# Altium schematic symbol library 6.Chips.SchLib: 209 symbols (part 1 of 3)
Pins are listed as number, name and electrical type; pins without a type are passive.

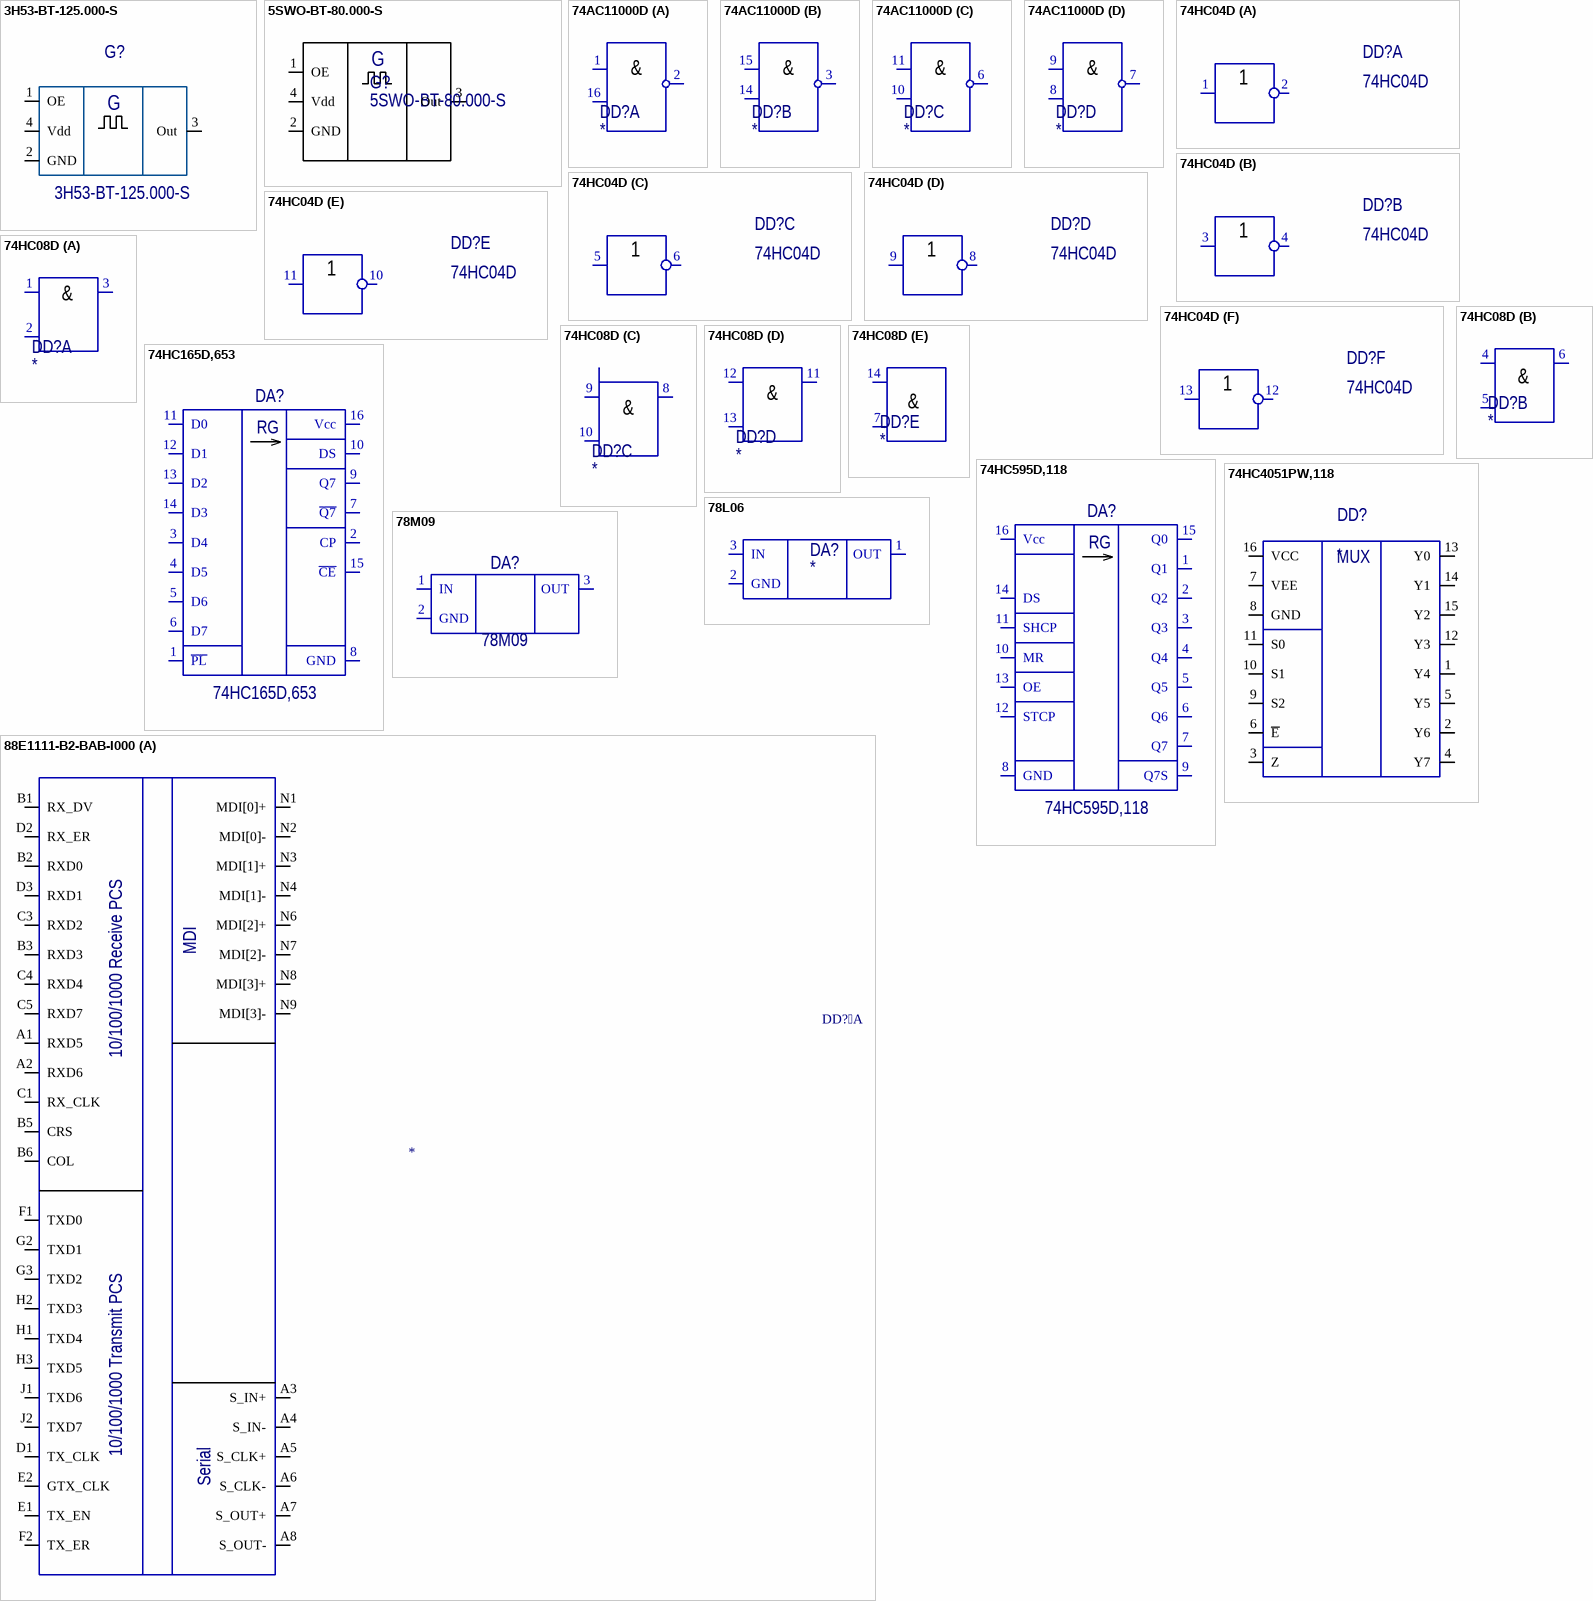
[diagram p0: symbols 3H53-BT-125.000-S to 88E1111-B2-BAB-I000]

## 3H53-BT-125.000-S
designator G?
footprint 3H53-5032 (Footprint not found)
pins: 1 OE, 2 GND, 3 Out, 4 Vdd
text: G

## 5SWO-BT-80.000-S
designator G?
footprint CFPS-73
pins: 1 OE, 2 GND, 3 Out, 4 Vdd
text: G

## 74AC11000D
designator DD?
footprint DIP16
part A pins: 1, 2 3, 16 2
part B pins: 3, 14 2, 15 1
part C pins: 6 3, 10 2, 11 1
part D pins: 7 3, 8 2, 9 1
part A text: &
part B text: &
part C text: &
part D text: &

## 74HC04D
designator DD?
footprint SO14 (SOIC, 14-Leads, Body 8,65x3,90mm, Pitch 1,27mm, IPC Medium Density)
part A pins: 1 1A, 2 1Y, 7 GNG hidden to GND, 14 Vcc hidden to Vcc
part B pins: 3 2A, 4 2Y
part C pins: 5 3A, 6 3Y
part D pins: 8 4Y, 9 4A
part E pins: 10 5Y, 11 5A
part F pins: 12 6Y, 13 6A

## 74HC08D
designator DD?
footprint so-14 (SOIC, 14-Leads, Body 8,65x3,90mm, Pitch 1,27mm, IPC Medium Density)
part A pins: 1 A, 2 B, 3 Y
part B pins: 4 A, 5 B, 6 Y
part C pins: 8 Y, 9 A, 10 B
part D pins: 11 Y, 12 A, 13 B
part E pins: 7 GND, 14 Vcc
part A text: &
part B text: &
part C text: &
part D text: &
part E text: &

## 74HC165D,653
designator DA?
8-битный сдвиговый регистр с параллельным входом, последовательным выходом [SO-16]; ComponentLink1Description: ds; ComponentLink1URL: https://www.ti.com/lit/ds/symlink/tps62110.pdf?ts=1597961771362&ref_url=https%253A%252F%252Fwww.rlocman.ru%252Fdatasheet%252Fdata.html%253Fdi%253D219501%2526%252FTPS62110RSAT
footprint SO-16 (SOIC, 16-Leads, Body 9,90x3,90mm, Pitch 1,27mm, IPC Medium Density)
pins: 1 ~{PL}, 2 CP, 3 D4, 4 D5, 5 D6, 6 D7, 7 ~{Q7}, 8 GND, 9 Q7, 10 DS, 11 D0, 12 D1, 13 D2, 14 D3, 15 ~{CE}, 16 Vcc
text: RG

## 74HC595D,118
designator DA?
8-и битный сдвиговый регистр с выходным регистром-защелки и тремя состояниями, [SO-16]; ComponentLink1Description: ds; ComponentLink1URL: https://www.ti.com/lit/ds/symlink/tps62110.pdf?ts=1597961771362&ref_url=https%253A%252F%252Fwww.rlocman.ru%252Fdatasheet%252Fdata.html%253Fdi%253D219501%2526%252FTPS62110RSAT
footprint SO-16 (SOIC, 16-Leads, Body 9,90x3,90mm, Pitch 1,27mm, IPC Medium Density)
pins: 1 Q1, 2 Q2, 3 Q3, 4 Q4, 5 Q5, 6 Q6, 7 Q7, 8 GND, 9 Q7S, 10 MR, 11 SHCP, 12 STCP, 13 OE, 14 DS, 15 Q0, 16 Vcc
text: RG

## 74HC4051PW,118
designator DD?
Восьми канальный аналоговый мультиплексор/ демультиплексор
footprint TSSOP-16 (TSOP, 16-Leads, Body 5,00x4,40mm, Pitch 0,65mm, IPC Medium Density)
pins: 1 Y4, 2 Y6, 3 Z, 4 Y7, 5 Y5, 6 ~{E}, 7 VEE, 8 GND, 9 S2, 10 S1, 11 S0, 12 Y3, 13 Y0, 14 Y1, 15 Y2, 16 VCC
text: MUX

## 78L06
designator DA?
footprint КТ-26 (Аналог TO-92 // Масса не более 1г //  LIV)
pins: 1 OUT, 2 GND, 3 IN

## 78M09
designator DA?
Стабилизатор напряжения +9В 1А [DPAK]; HelpURL: https://static.chipdip.ru/lib/142/DOC000142693.pdf
footprint to-252 (D-PAK, 3-Pads, Body 6,15x6,65mm (max), IPC Medium Density)
pins: 1 IN, 2 GND, 3 OUT

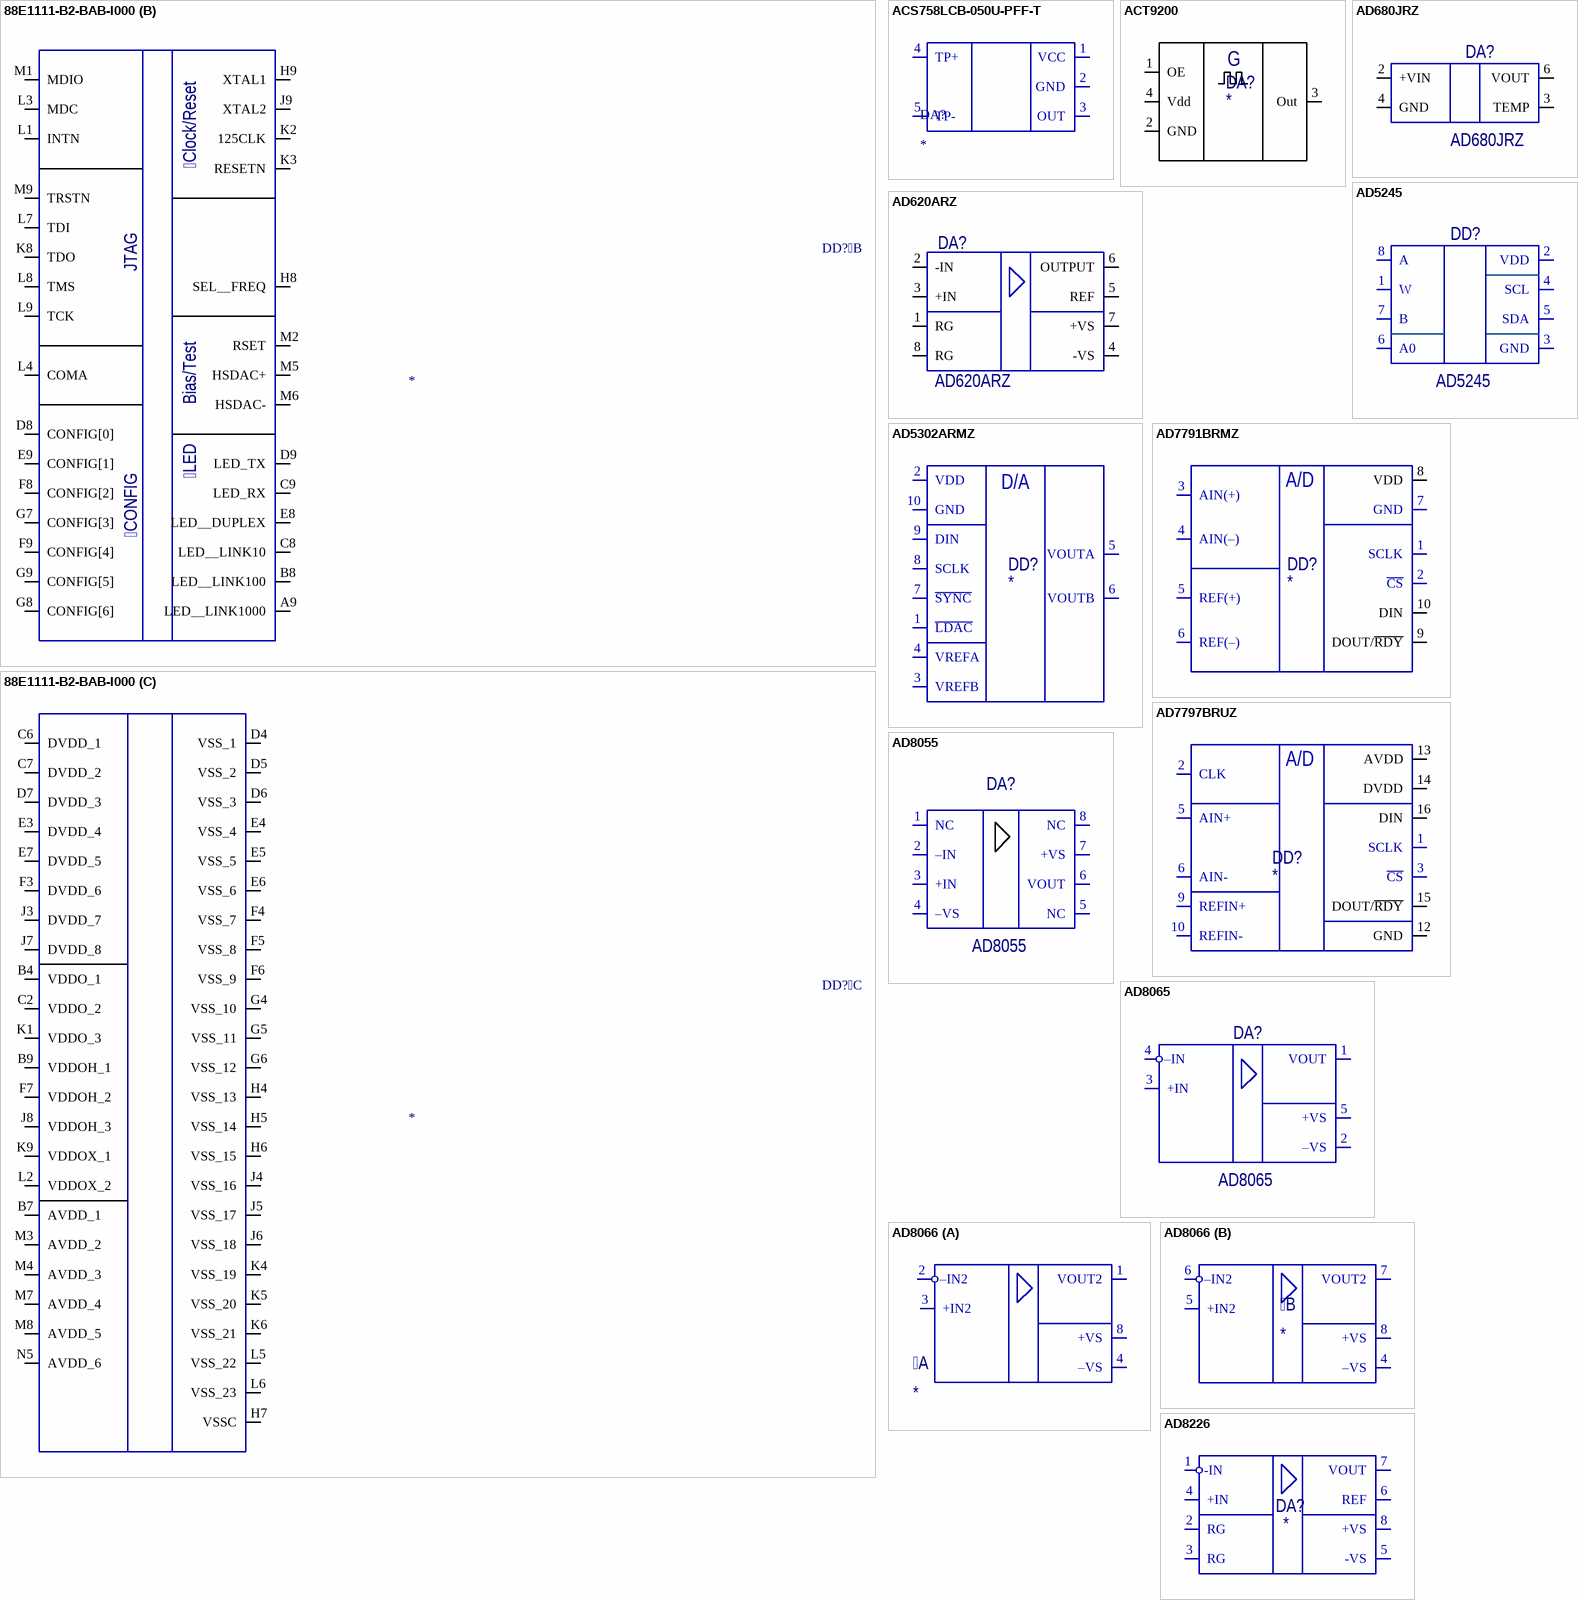
[diagram p1: symbols 88E1111-B2-BAB-I000 to AD8226]

## 88E1111-B2-BAB-I000
designator DD?
PHY 1-CH 10Mbps/100Mbps/1Gbps 1V/2.5V 128-Pin PQFP; Manufacturer_Name: Marvell; Manufacturer_Part_Number: 88E1111-B2-BAB-I000; Height: 1.54mm
footprint TFBGA-117
part A pins: A1 RXD5, A2 RXD6, A3 S_IN+, A4 S_IN-, A5 S_CLK+, A6 S_CLK-, A7 S_OUT+, A8 S_OUT-, B1 RX_DV, B2 RXD0, B3 RXD3, B5 CRS, B6 COL, C1 RX_CLK, C3 RXD2, C4 RXD4, C5 RXD7, D1 TX_CLK, D2 RX_ER, D3 RXD1, E1 TX_EN, E2 GTX_CLK, F1 TXD0, F2 TX_ER, G2 TXD1, G3 TXD2, H1 TXD4, H2 TXD3, H3 TXD5, J1 TXD6, J2 TXD7, N1 MDI[0]+, N2 MDI[0]-, N3 MDI[1]+, N4 MDI[1]-, N6 MDI[2]+, N7 MDI[2]-, N8 MDI[3]+, N9 MDI[3]-
part B pins: A9 LED__LINK1000, B8 LED__LINK100, C8 LED__LINK10, C9 LED_RX, D8 CONFIG[0], D9 LED_TX, E8 LED__DUPLEX, E9 CONFIG[1], F8 CONFIG[2], F9 CONFIG[4], G7 CONFIG[3], G8 CONFIG[6], G9 CONFIG[5], H8 SEL__FREQ, H9 XTAL1, J9 XTAL2, K2 125CLK, K3 RESETN, K8 TDO, L1 INTN, L3 MDC, L4 COMA, L7 TDI, L8 TMS, L9 TCK, M1 MDIO, M2 RSET, M5 HSDAC+, M6 HSDAC-, M9 TRSTN
part C pins: B4 VDDO_1, B7 AVDD_1, B9 VDDOH_1, C2 VDDO_2, C6 DVDD_1, C7 DVDD_2, D4 VSS_1, D5 VSS_2, D6 VSS_3, D7 DVDD_3, E3 DVDD_4, E4 VSS_4, E5 VSS_5, E6 VSS_6, E7 DVDD_5, F3 DVDD_6, F4 VSS_7, F5 VSS_8, F6 VSS_9, F7 VDDOH_2, G4 VSS_10, G5 VSS_11, G6 VSS_12, H4 VSS_13, H5 VSS_14, H6 VSS_15, H7 VSSC, J3 DVDD_7, J4 VSS_16, J5 VSS_17, J6 VSS_18, J7 DVDD_8, J8 VDDOH_3, K1 VDDO_3, K4 VSS_19, K5 VSS_20, K6 VSS_21, K9 VDDOX_1, L2 VDDOX_2, L5 VSS_22, L6 VSS_23, M3 AVDD_2, M4 AVDD_3, M7 AVDD_4, M8 AVDD_5, N5 AVDD_6
part A text: MDI; 10/100/1000 Receive PCS; 10/100/1000 Transmit PCS; Serial
part B text: Clock/Reset; JTAG; Bias/Test; LED; CONFIG

## ACS758LCB-050U-PFF-T
designator DA?
Thermally Enhanced, Fully Integrated, Hall Effect-Based / Linear Current Sensor IC with 100 μΩ Current Conductor; Manufacturer_Name: Allegro Microsystems; Manufacturer_Part_Number: ACS758LCB-050U-PFF-T; Datasheet Link: https://www.allegromicro.com/-/media/files/datasheets/acs758-datasheet.ashx; Height: 7.1mm; Mouser Part Number: 250-758LCB050UPFFT; Mouser Price/Stock: https://www.mouser.co.uk/ProductDetail/Allegro-MicroSystems/ACS758LCB-050U-PFF-T?qs=pUKx8fyJudCQcQ2Yase1sQ%3D%3D; Arrow Part Number: ACS758LCB-050U-PFF-T; Arrow Price/Stock: https://www.arrow.com/en/products/acs758lcb-050u-pff-t/allegro-microsystems?region=nac
footprint ACS772ECB200BPFFT
pins: 1 VCC, 2 GND, 3 OUT, 4 TP+, 5 TP-

## ACT9200
designator DA?
footprint ACT9200
pins: 1 OE, 2 GND, 3 Out, 4 Vdd
text: G

## AD620ARZ
designator DA?
Инструментальный усилитель; Manufacturer_Name: Analog Devices; Datasheet Link: https://componentsearchengine.com/Datasheets/2/AD620ARZ.pdf; Height: 1.75mm; Manufacturer_Part_Number: AD620ARZ; Mouser Part Number: 584-AD620ARZ; Mouser Price/Stock: https://www.mouser.co.uk/ProductDetail/Analog-Devices/AD620ARZ?qs=NmRFExCfTkFljAdgs5eriQ%3D%3D; Arrow Part Number: AD620ARZ; Arrow Price/Stock: https://www.arrow.com/en/products/ad620arz/analog-devices?region=nac
footprint so-8 (SOIC, 8-Leads, Body 4,90x3,90mm, Pitch 1,27mm, IPC Medium Density)
pins: 1 RG, 2 -IN, 3 +IN, 4 -VS, 5 REF, 6 OUTPUT, 7 +VS, 8 RG

## AD680JRZ
designator DA?
Источник опорного напряжения 2.5В; Manufacturer_Name: Analog Devices; Datasheet Link: http://www.analog.com/media/en/technical-documentation/data-sheets/AD680.pdf; Height: 1.75mm; Manufacturer_Part_Number: AD680JRZ; Mouser Part Number: 584-AD680JRZ; Mouser Price/Stock: https://www.mouser.co.uk/ProductDetail/Analog-Devices/AD680JRZ?qs=NmRFExCfTkGxi%2FRUmWE7Cg%3D%3D; Arrow Part Number: AD680JRZ; Arrow Price/Stock: https://www.arrow.com/en/products/ad680jrz/analog-devices
footprint SO-8 (SOIC, 8-Leads, Body 4,90x3,90mm, Pitch 1,27mm, IPC Medium Density)
pins: 2 +VIN, 3 TEMP, 4 GND, 6 VOUT

## AD5245
designator DD?
AD5245BRJZ100-RL7, Цифровой потенциометр, 100кОм, I2C, 256POS [SOT-23-8]
footprint SOT65P280X145-8N
pins: 1 W, 2 VDD, 3 GND, 4 SCL, 5 SDA, 6 A0, 7 B, 8 A

## AD5302ARMZ
designator DD?
HelpURL: https://static.chipdip.ru/lib/149/DOC000149807.pdf
footprint MSOP-10 (TSSOP, 10-Leads, Body 3,00x3,00mm, Pitch 0,50mm, IPC Medium Density)
pins: 1 ~{LDAC}, 2 VDD, 3 VREFB, 4 VREFA, 5 VOUTA, 6 VOUTB, 7 ~{SYNC}, 8 SCLK, 9 DIN, 10 GND
text: D/A

## AD7791BRMZ
designator DD?
ADC 24BIT BUFFERED LP [MSOP-10]
footprint MSOP-10 (TSSOP, 10-Leads, Body 3,00x3,00mm, Pitch 0,50mm, IPC Medium Density)
pins: 1 SCLK, 2 ~{CS}, 3 AIN(+), 4 AIN(–), 5 REF(+), 6 REF(–), 7 GND, 8 VDD, 9 DOUT/~{RDY}, 10 DIN
text: А/D

## AD7797BRUZ
designator DD?
24-бит сигма-дельта АЦП
footprint TSSOP-16 (TSOP, 16-Leads, Body 5,00x4,40mm, Pitch 0,65mm, IPC Medium Density)
pins: 1 SCLK, 2 CLK, 3 ~{CS}, 5 AIN+, 6 AIN-, 9 REFIN+, 10 REFIN-, 12 GND, 13 AVDD, 14 DVDD, 15 DOUT/~{RDY}, 16 DIN
text: А/D

## AD8055
designator DA?
footprint SOIC8 (SOIC, 8-Leads, Body 4,90x3,90mm, Pitch 1,27mm, IPC Medium Density)
pins: 1 NC, 2 –IN, 3 +IN, 4 –VS, 5 NC, 6 VOUT, 7 +VS, 8 NC

## AD8065
designator DA?
footprint SOT-23-5 (SOT23, 5-Leads, Body 2,90x2,80mm, Pitch 0,95mm, IPC Medium Density)
pins: 1 VOUT, 2 –VS, 3 +IN, 4 –IN, 5 +VS

## AD8066
designator 
footprint So-8 (SOIC, 8-Leads, Body 4,90x3,90mm, Pitch 1,27mm, IPC Medium Density)
part A pins: 1 VOUT2, 2 –IN2, 3 +IN2, 4 –VS, 8 +VS
part B pins: 4 –VS, 5 +IN2, 6 –IN2, 7 VOUT2, 8 +VS

## AD8226
designator DA?
Wide Supply Range, Rail-to-Rail
footprint SO-8 (SOIC, 8-Leads, Body 4,90x3,90mm, Pitch 1,27mm, IPC Medium Density)
pins: 1 -IN, 2 RG, 3 RG, 4 +IN, 5 -VS, 6 REF, 7 VOUT, 8 +VS

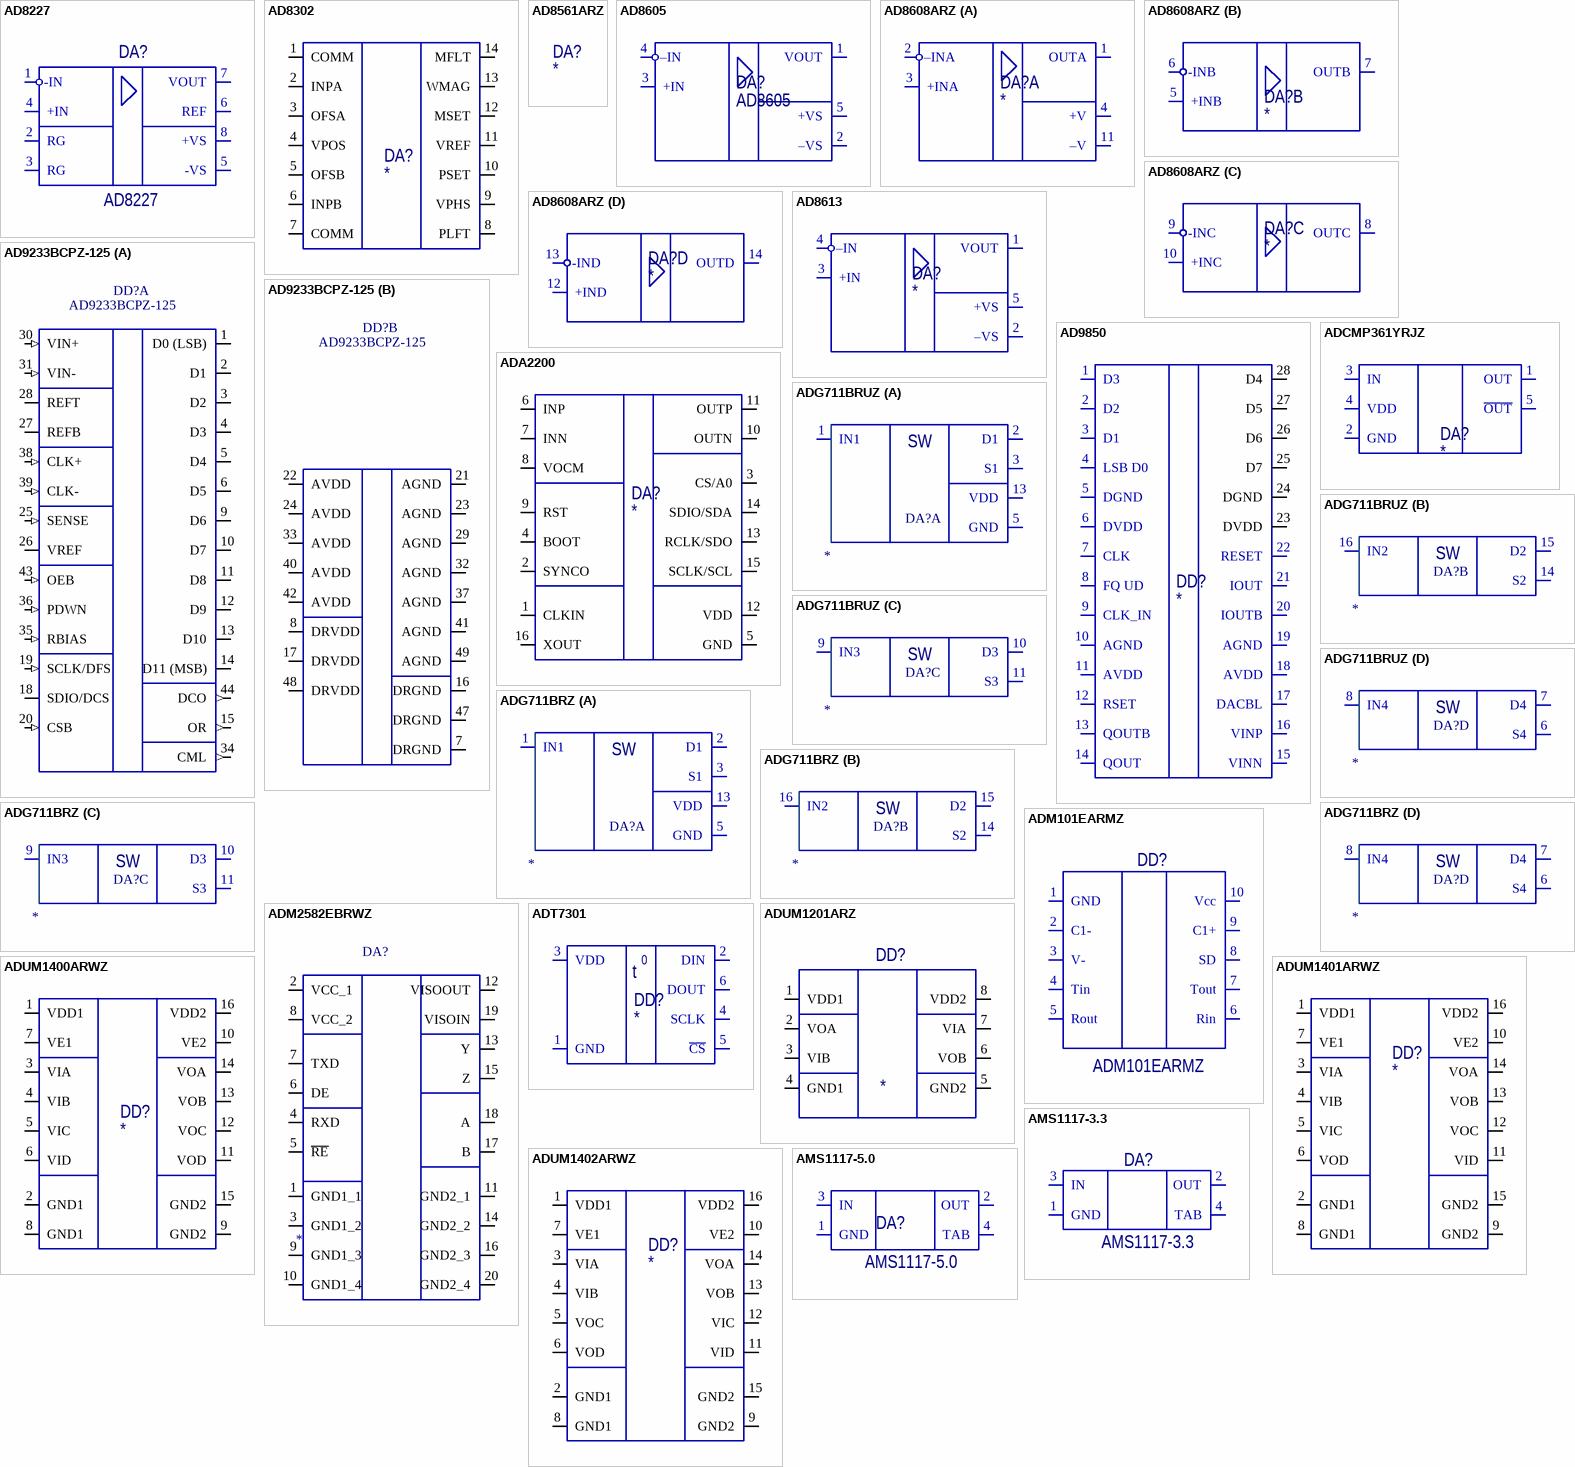
[diagram p2: symbols AD8227 to AMS1117-5.0]

## AD8227
designator DA?
Wide Supply Range, Rail-to-Rail
footprint SO-8 (SOIC, 8-Leads, Body 4,90x3,90mm, Pitch 1,27mm, IPC Medium Density)
pins: 1 -IN, 2 RG, 3 RG, 4 +IN, 5 -VS, 6 REF, 7 VOUT, 8 +VS

## AD8302
designator DA?
footprint TSSOP-14 (TSOP, 14-Leads, Body 5,00x4,40mm, Pitch 0,65mm, IPC Medium Density)
pins: 1 COMM, 2 INPA, 3 OFSA, 4 VPOS, 5 OFSB, 6 INPB, 7 COMM, 8 PLFT, 9 VPHS, 10 PSET, 11 VREF, 12 MSET, 13 WMAG, 14 MFLT

## AD8561ARZ
designator DA?
Быстродействующий (7нс) компаратор напряжения с однополярным питанием
footprint SO-8 (SOIC, 8-Leads, Body 4,90x3,90mm, Pitch 1,27mm, IPC Medium Density)

## AD8605
designator DA?
HelpURL: http://www.analog.com/media/en/technical-documentation/data-sheets/AD8605_8606_8608.pdf
footprint SOT-23-5 (SOT23, 5-Leads, Body 2,90x2,80mm, Pitch 0,95mm, IPC Medium Density)
pins: 1 VOUT, 2 –VS, 3 +IN, 4 –IN, 5 +VS

## AD8608ARZ
designator DA?
footprint SO-14 (SOIC, 14-Leads, Body 8,65x3,90mm, Pitch 1,27mm, IPC Medium Density)
part A pins: 1 OUTA, 2 –INA, 3 +INA, 4 +V, 11 –V
part B pins: 5 +INB, 6 -INB, 7 OUTB
part C pins: 8 OUTC, 9 -INC, 10 +INC
part D pins: 12 +IND, 13 -IND, 14 OUTD

## AD8613
designator DA?
Low Cost Micropower, Low Noise CMOS / Rail-to-Rail, Input/Output Operational Amplifiers
footprint SOT-23-5 (SOT23, 5-Leads, Body 2,90x2,80mm, Pitch 0,95mm, IPC Medium Density)
pins: 1 VOUT, 2 –VS, 3 +IN, 4 –IN, 5 +VS

## AD9233BCPZ-125
designator DD?
Single 12-Bit Analog-to-Digital Converter with Parallel Interface, 1.8 V 125MSPS, -40 to +85 degC, CP-48-3, Pb-Free, Tray; Part Number: AD9233-125; Manufacturer: Analog Devices; Interface: Par; Resolution (Bits): 12; Throughput Rate (SPS): 125M; Channels: 1; ComponentLink4Description: Product URL; ComponentLink1Description: Manufacturer URL; ComponentLink2Description: Datasheet; DatasheetVersion: Rev.A; ComponentLink3URL: http://www.analog.com/static/imported-files/packages/32365178961902CP_48_3.pdf; ComponentLink1URL: http://www.analog.com/en/index.html; Code_JEDEC: MO-220-VKKD-2; Packing: Tray; ComponentLink4URL: http://www.analog.com/en/analog-to-digital-converters/ad-converters/ad9233/products/product.html; ComponentLink2URL: http://www.analog.com/static/imported-files/data_sheets/AD9233.pdf; PackageReference: CP-48-3; ComponentLink3Description: Package Specification; PackageVersion: 2005; RoHS: Y; Mounting Technology: Surface Mount; PackageDescription: 48-Lead Lead Frame Chip Scale Package [LFCSP_VQ] 7 x 7 mm Body, Very Thin Quad; PartNumber: AD9233BCPZ-125
footprint CP-48-3_L (Footprint not found)
part A pins: 1 D0 (LSB) (hiz) "Data Output Bits", 2 D1 (hiz) "Data Output Bits", 3 D2 (hiz) "Data Output Bits", 4 D3 (hiz) "Data Output Bits", 5 D4 (hiz) "Data Output Bits", 6 D5 (hiz) "Data Output Bits", 9 D6 (hiz) "Data Output Bits", 10 D7 (hiz) "Data Output Bits", 11 D8 (hiz) "Data Output Bits", 12 D9 (hiz) "Data Output Bits", 13 D10 (hiz) "Data Output Bits", 14 D11 (MSB) (hiz) "Data Output Bits", 15 OR (out) "Out-of-Range Indicator.", 18 SDIO/DCS (io) "Serial Port Interface (SPI) Data Input/Output (Serial Port Mode); Duty Cycle Stabilizer Select (External Pin Mode). See Table 10.", 19 SCLK/DFS (in) "SPI Clock (Serial Port Mode); Data Format Select Pin (External Pin Mode). See Table 10.", 20 CSB (in) "SPI Chip Select (Active Low)", 25 SENSE (in) "Reference Mode Selection. See Table 9", 26 VREF (io) "Voltage Reference Input/Output.", 27 REFB "Differential Reference (-).", 28 REFT "Differential Reference (+).", 30 VIN+ (in) "Analog Input Pin (+).", 31 VIN- (in) "Analog Input Pin (-).", 34 CML (out) "Common-Mode Level Bias Output.", 35 RBIAS (in) "External Bias Resister Connection. A 10 kO resister must be connected between this pin and analog ground (AGND).", 36 PDWN (in) "Power-Down Function Select.", 38 CLK+ (in) "Clock Input (+).", 39 CLK- (in) "Clock Input (-).", 43 OEB (in) "Output Enable (Active Low).", 44 DCO (out) "Analog Ground. (Pin 0 is the exposed thermal pad on the bottom of the package.)"
part B pins: 7 DRGND (power) "Digital Output Ground.", 8 DRVDD (power) "Digital Output Driver Supply (1.8 V to 3.3 V).", 16 DRGND (power) "Digital Output Ground.", 17 DRVDD (power) "Digital Output Driver Supply (1.8 V to 3.3 V).", 21 AGND (power) "Analog Ground. (Pin 0 is the exposed thermal pad on the bottom of the package.)", 22 AVDD (power) "Analog Power Supply", 23 AGND (power) "Analog Ground. (Pin 0 is the exposed thermal pad on the bottom of the package.)", 24 AVDD (power) "Analog Power Supply", 29 AGND (power) "Analog Ground. (Pin 0 is the exposed thermal pad on the bottom of the package.)", 32 AGND (power) "Analog Ground. (Pin 0 is the exposed thermal pad on the bottom of the package.)", 33 AVDD (power) "Analog Power Supply", 37 AGND (power) "Analog Ground. (Pin 0 is the exposed thermal pad on the bottom of the package.)", 40 AVDD (power) "Analog Power Supply", 41 AGND (power) "Analog Ground. (Pin 0 is the exposed thermal pad on the bottom of the package.)", 42 AVDD (power) "Analog Power Supply", 47 DRGND (power) "Digital Output Ground.", 48 DRVDD (power) "Digital Output Driver Supply (1.8 V to 3.3 V).", 49 AGND (power) "Analog Ground. (Pin 0 is the exposed thermal pad on the bottom of the package.)"

## AD9850
designator DD?
footprint SSOP-28 (MO-150-AH) (SOP, 28-Leads, Body 10,2x5,3mm (max), Pitch 0,65mm, IPC Low Density)
pins: 1 D3, 2 D2, 3 D1, 4 LSB D0, 5 DGND, 6 DVDD, 7 CLK, 8 FQ UD, 9 CLK_IN, 10 AGND, 11 AVDD, 12 RSET, 13 QOUTB, 14 QOUT, 15 VINN, 16 VINP, 17 DACBL, 18 AVDD, 19 AGND, 20 IOUTB, 21 IOUT, 22 RESET, 23 DVDD, 24 DGND, 25 D7, 26 D6, 27 D5, 28 D4

## ADA2200
designator DA?
Synchronous Demodulator and Configurable Analog Filter
footprint TSSOP-16 (TSOP, 16-Leads, Body 5,00x4,40mm, Pitch 0,65mm, IPC Medium Density)
pins: 1 CLKIN, 2 SYNCO, 3 CS/A0, 4 BOOT, 5 GND, 6 INP, 7 INN, 8 VOCM, 9 RST, 10 OUTN, 11 OUTP, 12 VDD, 13 RCLK/SDO, 14 SDIO/SDA, 15 SCLK/SCL, 16 XOUT

## ADCMP361YRJZ
designator DA?
GENERAL PURPOSE COMPARATOR
footprint SOT-23-5 (SOT23, 5-Leads, Body 2,90x2,80mm, Pitch 0,95mm, IPC Medium Density)
pins: 1 OUT, 2 GND, 3 IN, 4 VDD, 5 ~{OUT}

## ADG711BRUZ
designator DA?
CMOS Low Voltage, 4 Ω Quad, / SPST Switches; Manufacturer_Name: Analog Devices; Manufacturer_Part_Number: ADG711BRUZ; Datasheet Link: http://www.analog.com/media/en/technical-documentation/data-sheets/ADG711_712_713.pdf; Height: 1.2mm; Mouser Part Number: 584-ADG711BRUZ; Mouser Price/Stock: https://www.mouser.co.uk/ProductDetail/Analog-Devices/ADG711BRUZ/?qs=BpaRKvA4VqFqXmZnwIh7aQ%3D%3D; Arrow Part Number: ADG711BRUZ; Arrow Price/Stock: https://www.arrow.com/en/products/adg711bruz/analog-devices
footprint SOP65P640X120-16N
part A pins: 1 IN1, 2 D1, 3 S1, 5 GND, 13 VDD
part B pins: 14 S2, 15 D2, 16 IN2
part C pins: 9 IN3, 10 D3, 11 S3
part D pins: 6 S4, 7 D4, 8 IN4
part A text: SW
part B text: SW
part C text: SW
part D text: SW

## ADG711BRZ
designator DA?
CMOS Low Voltage, 4 Ω Quad, / SPST Switches; Manufacturer_Name: Analog Devices; Manufacturer_Part_Number: ADG711BRUZ; Datasheet Link: http://www.analog.com/media/en/technical-documentation/data-sheets/ADG711_712_713.pdf; Height: 1.2mm; Mouser Part Number: 584-ADG711BRUZ; Mouser Price/Stock: https://www.mouser.co.uk/ProductDetail/Analog-Devices/ADG711BRUZ/?qs=BpaRKvA4VqFqXmZnwIh7aQ%3D%3D; Arrow Part Number: ADG711BRUZ; Arrow Price/Stock: https://www.arrow.com/en/products/adg711bruz/analog-devices
footprint SO-16 (SOIC, 16-Leads, Body 9,90x3,90mm, Pitch 1,27mm, IPC Medium Density)
part A pins: 1 IN1, 2 D1, 3 S1, 5 GND, 13 VDD
part B pins: 14 S2, 15 D2, 16 IN2
part C pins: 9 IN3, 10 D3, 11 S3
part D pins: 6 S4, 7 D4, 8 IN4
part A text: SW
part B text: SW
part C text: SW
part D text: SW

## ADM101EARMZ
designator DD?
footprint MSOP-10 (TSSOP, 10-Leads, Body 3,00x3,00mm, Pitch 0,50mm, IPC Medium Density)
pins: 1 GND, 2 C1-, 3 V-, 4 Tin, 5 Rout, 6 Rin, 7 Tout, 8 SD, 9 C1+, 10 Vcc

## ADM2582EBRWZ
designator DA?
Приемопередатчик RS-485 (16Mbps), изоляция по питанию и сигналу 2.5 Кв; Manufacturer_Name: Analog Devices; Manufacturer_Part_Number: ADM2582EBRWZ; Datasheet Link: http://www.analog.com/static/imported-files/data_sheets/ADM2582E_2587E.pdf; Height: 2.65mm; Mouser Part Number: 584-ADM2582EBRWZ; Mouser Price/Stock: https://www.mouser.co.uk/ProductDetail/Analog-Devices/ADM2582EBRWZ?qs=BpaRKvA4VqEUmXw45IunQg%3D%3D; Arrow Part Number: ADM2582EBRWZ; Arrow Price/Stock: https://www.arrow.com/en/products/adm2582ebrwz/analog-devices?region=nac
footprint SOIC-20(0.295 inch) (Footprint not found)
pins: 1 GND1_1, 2 VCC_1, 3 GND1_2, 4 RXD, 5 ~{RE}, 6 DE, 7 TXD, 8 VCC_2, 9 GND1_3, 10 GND1_4, 11 GND2_1, 12 VISOOUT, 13 Y, 14 GND2_2, 15 Z, 16 GND2_3, 17 B, 18 A, 19 VISOIN, 20 GND2_4

## ADT7301
designator DD?
HelpURL: http://www.analog.com/media/en/technical-documentation/data-sheets/adt7301.pdf
footprint SOT-23-6 (SOT23, 6-Leads, Body 1,60x1,60mm, Pitch 0,50mm, IPC Medium Density)
pins: 1 GND, 2 DIN, 3 VDD, 4 SCLK, 5 ~{CS}, 6 DOUT
text: 0; t

## ADUM1201ARZ
designator DD?
Двухканальный цифровой изолятор
footprint SO-8 (SOIC, 8-Leads, Body 4,90x3,90mm, Pitch 1,27mm, IPC Medium Density)
pins: 1 VDD1, 2 VOA, 3 VIB, 4 GND1, 5 GND2, 6 VOB, 7 VIA, 8 VDD2

## ADUM1400ARWZ
designator DD?
Четырехканальный цифровой изолятор
footprint SO-16W
pins: 1 VDD1, 2 GND1, 3 VIA, 4 VIB, 5 VIC, 6 VID, 7 VE1, 8 GND1, 9 GND2, 10 VE2, 11 VOD, 12 VOC, 13 VOB, 14 VOA, 15 GND2, 16 VDD2

## ADUM1401ARWZ
designator DD?
Четырехканальный цифровой изолятор
footprint SO-16W
pins: 1 VDD1, 2 GND1, 3 VIA, 4 VIB, 5 VIC, 6 VOD, 7 VE1, 8 GND1, 9 GND2, 10 VE2, 11 VID, 12 VOC, 13 VOB, 14 VOA, 15 GND2, 16 VDD2

## ADUM1402ARWZ
designator DD?
Четырехканальный цифровой изолятор
footprint SO-16W
pins: 1 VDD1, 2 GND1, 3 VIA, 4 VIB, 5 VOC, 6 VOD, 7 VE1, 8 GND1, 9 GND2, 10 VE2, 11 VID, 12 VIC, 13 VOB, 14 VOA, 15 GND2, 16 VDD2

## AMS1117-3.3
designator DA?
footprint SOT223 (SOT223, 4-Leads, Body 6,50x7,00mm (avg), Pitch 2,30mm, IPC Medium Density)
pins: 1 GND, 2 OUT, 3 IN, 4 TAB

## AMS1117-5.0
designator DA?
footprint SOT223 (SOT223, 4-Leads, Body 6,50x7,00mm (avg), Pitch 2,30mm, IPC Medium Density)
pins: 1 GND, 2 OUT, 3 IN, 4 TAB

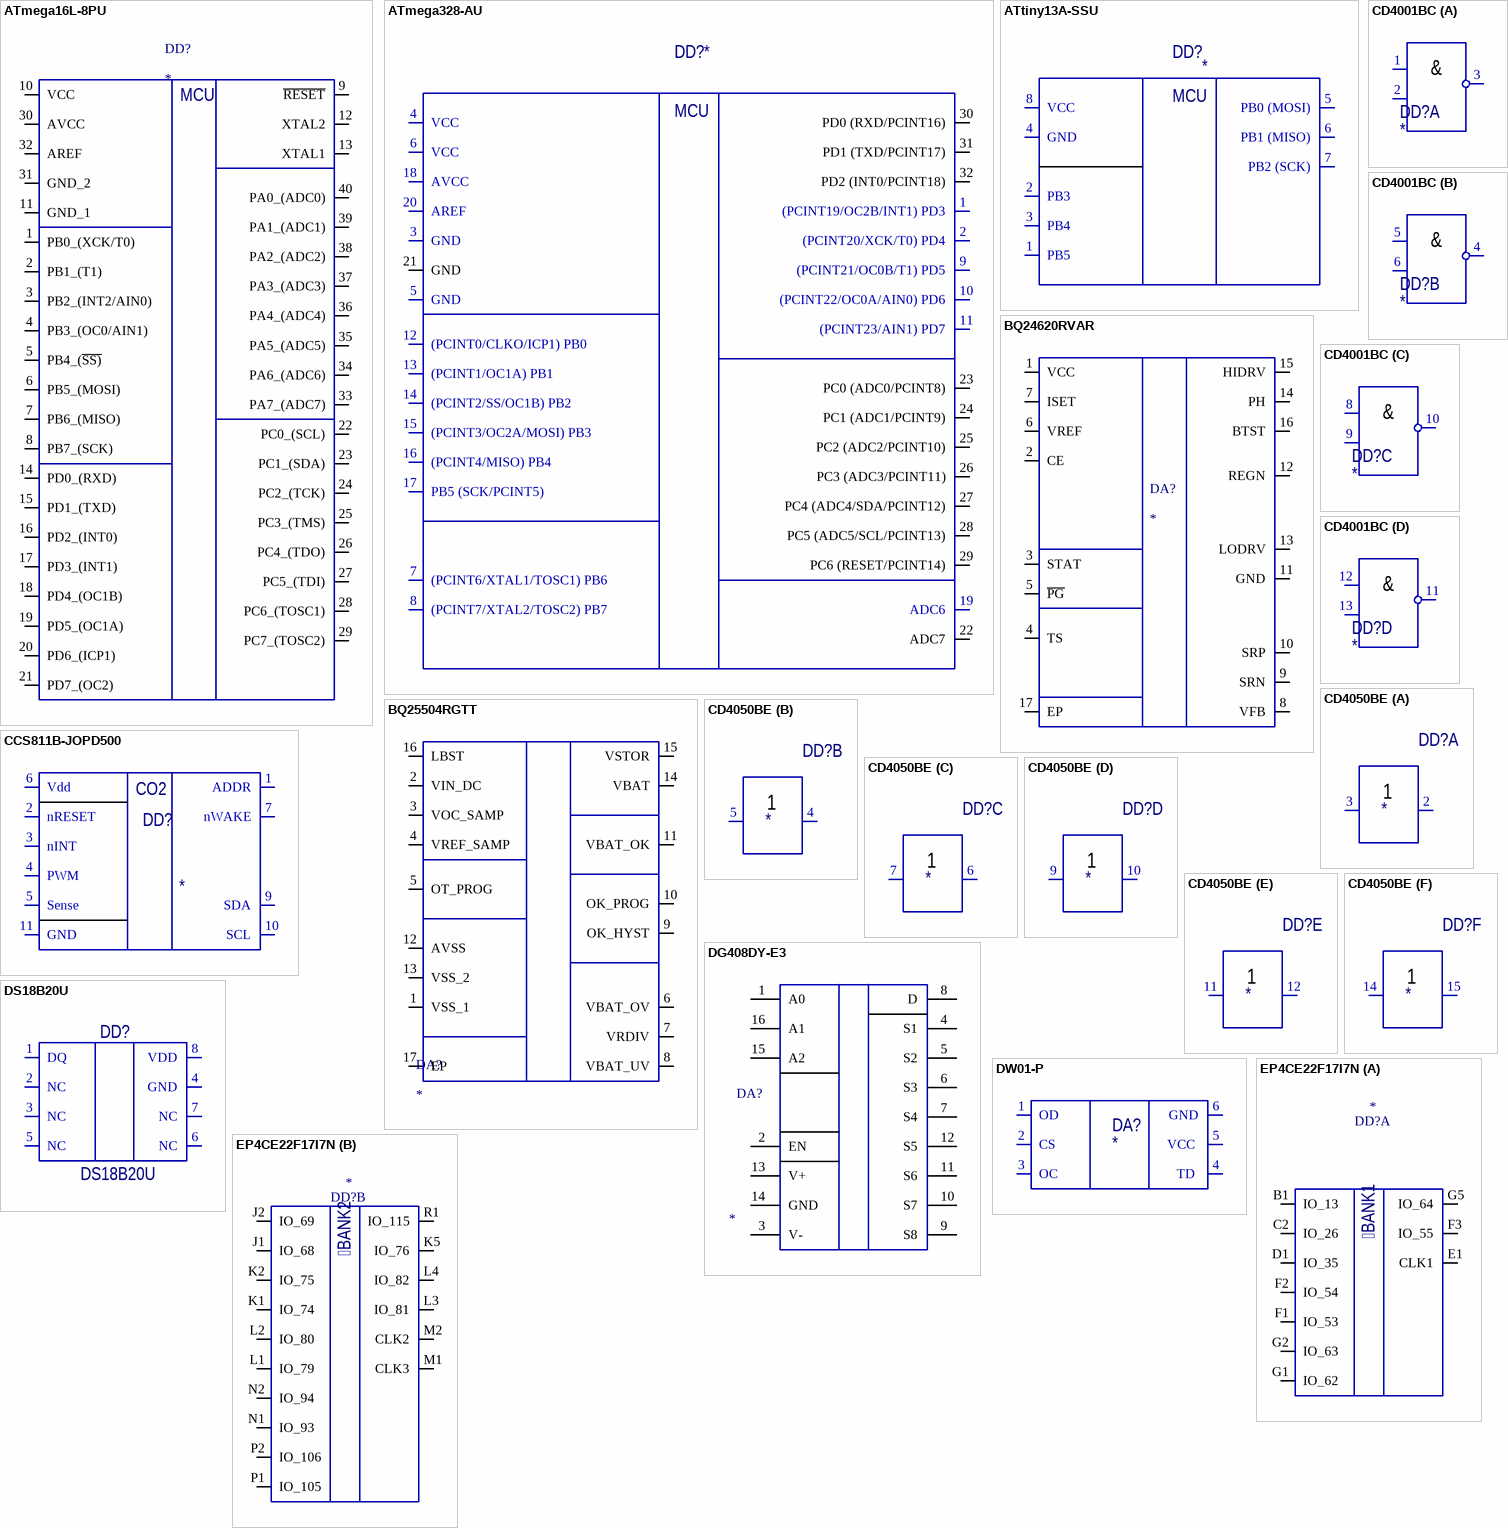
[diagram p3: symbols ATmega16L-8PU to EP4CE22F17I7N]

## ATmega16L-8PU
designator DD?
ATmega16-16PU, Микроконтроллер 8-Бит, AVR, 16МГц, 16КБ Flash [DIP-40]; Manufacturer_Name: Microchip; Manufacturer_Part_Number: ATmega16L-8PU; Datasheet Link: http://ww1.microchip.com/downloads/en/DeviceDoc/doc2466.pdf; Height: 4.826mm; Mouser Part Number: 556-ATMEGA16L-8PU; Mouser Price/Stock: https://www.mouser.co.uk/ProductDetail/Microchip-Technology-Atmel/ATMEGA16L-8PU?qs=aqrrBurbvGfzSW2h8UXBhA%3D%3D; Arrow Part Number: ATMEGA16L-8PU; Arrow Price/Stock: https://www.arrow.com/en/products/atmega16l-8pu/microchip-technology
footprint DIP-40
pins: 1 PB0_(XCK/T0), 2 PB1_(T1), 3 PB2_(INT2/AIN0), 4 PB3_(OC0/AIN1), 5 PB4_(~{SS)}, 6 PB5_(MOSI), 7 PB6_(MISO), 8 PB7_(SCK), 9 ~{RESET}, 10 VCC, 11 GND_1, 12 XTAL2, 13 XTAL1, 14 PD0_(RXD), 15 PD1_(TXD), 16 PD2_(INT0), 17 PD3_(INT1), 18 PD4_(OC1B), 19 PD5_(OC1A), 20 PD6_(ICP1), 21 PD7_(OC2), 22 PC0_(SCL), 23 PC1_(SDA), 24 PC2_(TCK), 25 PC3_(TMS), 26 PC4_(TDO), 27 PC5_(TDI), 28 PC6_(TOSC1), 29 PC7_(TOSC2), 30 AVCC, 31 GND_2, 32 AREF, 33 PA7_(ADC7), 34 PA6_(ADC6), 35 PA5_(ADC5), 36 PA4_(ADC4), 37 PA3_(ADC3), 38 PA2_(ADC2), 39 PA1_(ADC1), 40 PA0_(ADC0)
text: MCU

## ATmega328-AU
designator DD?
footprint TQFP32 (TQFP, 32-Leads, Body 7,00x7,00mm, Pitch 0,80mm, IPC Medium Density)
pins: 1 (PCINT19/OC2B/INT1) PD3, 2 (PCINT20/XCK/T0) PD4, 3 GND, 4 VCC, 5 GND, 6 VCC, 7 (PCINT6/XTAL1/TOSC1) PB6, 8 (PCINT7/XTAL2/TOSC2) PB7, 9 (PCINT21/OC0B/T1) PD5, 10 (PCINT22/OC0A/AIN0) PD6, 11 (PCINT23/AIN1) PD7, 12 (PCINT0/CLKO/ICP1) PB0, 13 (PCINT1/OC1A) PB1, 14 (PCINT2/SS/OC1B) PB2, 15 (PCINT3/OC2A/MOSI) PB3, 16 (PCINT4/MISO) PB4, 17 PB5 (SCK/PCINT5), 18 AVCC, 19 ADC6, 20 AREF, 21 GND, 22 ADC7, 23 PC0 (ADC0/PCINT8), 24 PC1 (ADC1/PCINT9), 25 PC2 (ADC2/PCINT10), 26 PC3 (ADC3/PCINT11), 27 PC4 (ADC4/SDA/PCINT12), 28 PC5 (ADC5/SCL/PCINT13), 29 PC6 (RESET/PCINT14), 30 PD0 (RXD/PCINT16), 31 PD1 (TXD/PCINT17), 32 PD2 (INT0/PCINT18)
text: MCU

## ATtiny13A-SSU
designator DD?
HelpURL: https://static.chipdip.ru/lib/475/DOC001475642.pdf
footprint SO-8 (SOIC, 8-Leads, Body 4,90x3,90mm, Pitch 1,27mm, IPC Medium Density)
pins: 1 PB5, 2 PB3, 3 PB4, 4 GND, 5 PB0 (MOSI), 6 PB1 (MISO), 7 PB2 (SCK), 8 VCC
text: MCU

## BQ24620RVAR
designator DA?
Integrated Circuit; Manufacturer_Name: Texas Instruments; Manufacturer_Part_Number: BQ24620RVAR; Datasheet Link: http://www.ti.com/lit/gpn/BQ24620; Height: 1mm; Mouser Part Number: 595-BQ24620RVAR; Mouser Price/Stock: https://www.mouser.co.uk/ProductDetail/Texas-Instruments/BQ24620RVAR?qs=EuM%2FBx4ov4ShEmca2uQRUQ%3D%3D; Arrow Part Number: BQ24620RVAR; Arrow Price/Stock: https://www.arrow.com/en/products/bq24620rvar/texas-instruments?region=nac
footprint QFN50P350X350X100-17N-D
pins: 1 VCC, 2 CE, 3 STAT, 4 TS, 5 ~{PG}, 6 VREF, 7 ISET, 8 VFB, 9 SRN, 10 SRP, 11 GND, 12 REGN, 13 LODRV, 14 PH, 15 HIDRV, 16 BTST, 17 EP

## BQ25504RGTT
designator DA?
Ultra Low-Power Boost Converter With Battery Management For Energy Harvester Applications; Manufacturer_Name: Texas Instruments; Manufacturer_Part_Number: BQ25504RGTT; Datasheet Link: http://www.ti.com/general/docs/lit/getliterature.tsp?genericPartNumber=BQ25504&&fileType=pdf; Height: 1mm; Mouser Part Number: 595-BQ25504RGTT; Mouser Price/Stock: https://www.mouser.co.uk/ProductDetail/Texas-Instruments/BQ25504RGTT?qs=LDM2r2BBpnbezhyy8cKCSA%3D%3D; Arrow Part Number: BQ25504RGTT; Arrow Price/Stock: https://www.arrow.com/en/products/bq25504rgtt/texas-instruments?region=nac
footprint VQFN-16
pins: 1 VSS_1, 2 VIN_DC, 3 VOC_SAMP, 4 VREF_SAMP, 5 OT_PROG, 6 VBAT_OV, 7 VRDIV, 8 VBAT_UV, 9 OK_HYST, 10 OK_PROG, 11 VBAT_OK, 12 AVSS, 13 VSS_2, 14 VBAT, 15 VSTOR, 16 LBST, 17 EP

## CCS811B-JOPD500
designator DD?
Ultra-Low Power Digital Gas Sensor for / Monitoring Indoor Air Quality
footprint DFN-10 (LGA) (SON, 10-Leads, Body 4.00x2.70mm, Pitch 0.60mm, Thermal Pad 2.40x1.18mm, IPC Medium Density)
pins: 1 ADDR, 2 nRESET, 3 nINT, 4 PWM, 5 Sense, 6 Vdd, 7 nWAKE, 9 SDA, 10 SCL, 11 GND
text: CO2

## CD4001BC
designator DD?
footprint SO-14 (SOIC, 14-Leads, Body 8,65x3,90mm, Pitch 1,27mm, IPC Medium Density)
part A pins: 1, 2, 3, 7 hidden to GND, 14 hidden to Vcc
part B pins: 4, 5, 6
part C pins: 8, 9, 10
part D pins: 11, 12, 13 ~{}
part A text: &
part B text: &
part C text: &
part D text: &

## CD4050BE
designator DD?
Неинвертирующий буфер
footprint DIP16
part A pins: 1 Vcc hidden to GND, 2, 3, 8 Vss hidden to Vcc
part B pins: 4, 5
part C pins: 6, 7
part D pins: 9, 10
part E pins: 11, 12
part F pins: 14, 15

## DG408DY-E3
designator DA?
Analog MUX; Manufacturer_Name: Vishay; Manufacturer_Part_Number: DG408DY-E3; Datasheet Link: http://www.vishay.com/docs/70062/dg408.pdf; Height: 1.75mm; Mouser Part Number: 781-DG408DY-E3; Mouser Price/Stock: https://www.mouser.co.uk/ProductDetail/Vishay-Siliconix/DG408DY-E3?qs=YG04mjPhqMQrqCKuUvY8mg%3D%3D; Arrow Part Number: DG408DY-E3; Arrow Price/Stock: https://www.arrow.com/en/products/dg408dy-e3/vishay
footprint so-16 (SOIC, 16-Leads, Body 9,90x3,90mm, Pitch 1,27mm, IPC Medium Density)
pins: 1 A0, 2 EN, 3 V-, 4 S1, 5 S2, 6 S3, 7 S4, 8 D, 9 S8, 10 S7, 11 S6, 12 S5, 13 V+, 14 GND (power), 15 A2, 16 A1

## DS18B20U
designator DD?
footprint MSOP-8
pins: 1 DQ, 2 NC, 3 NC, 4 GND, 5 NC, 6 NC, 7 NC, 8 VDD

## DW01-P
designator DA?
One Cell Lithium-ion/Polymer Battery Protection IC
footprint SOT-23-6 (SOT23, 6-Leads, Body 1,60x1,60mm, Pitch 0,50mm, IPC Medium Density)
pins: 1 OD , 2 CS , 3 OC , 4 TD , 5 VCC , 6 GND

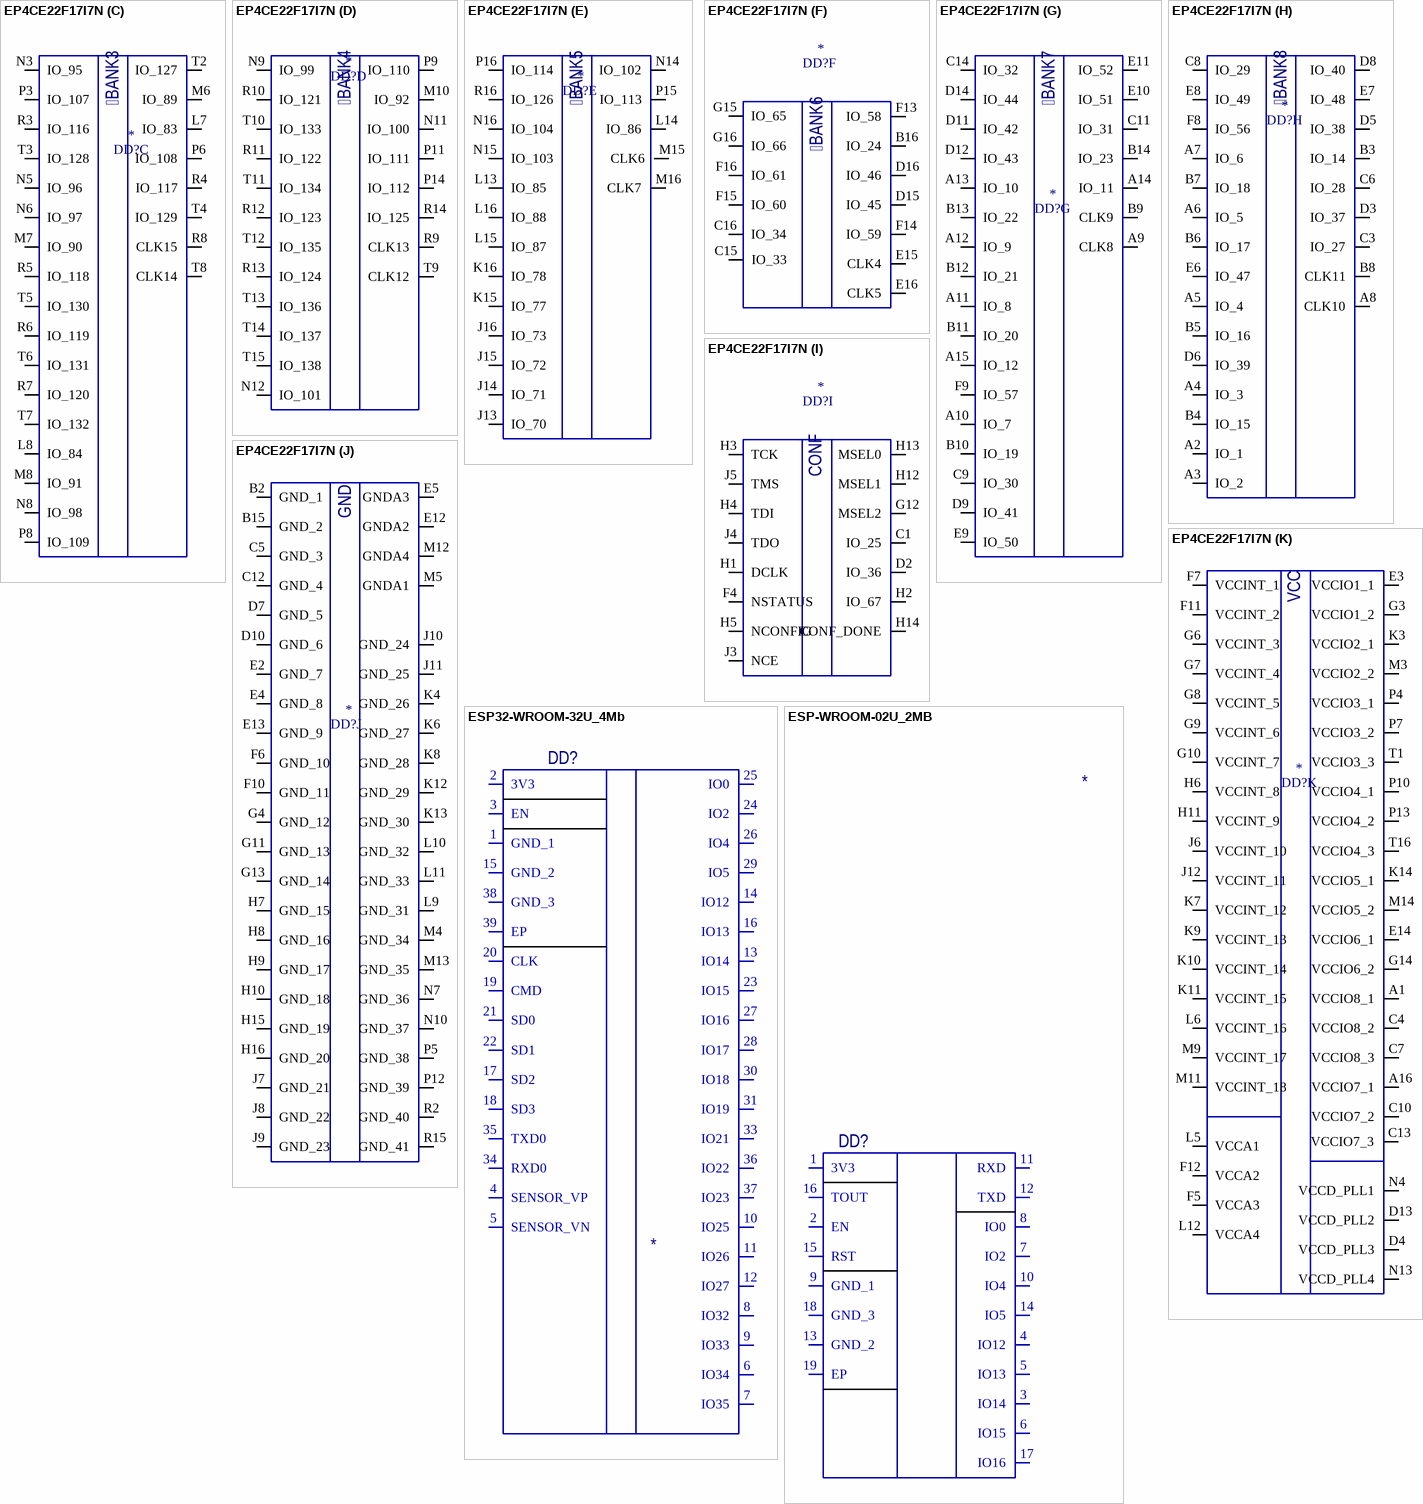
[diagram p4: symbols EP4CE22F17I7N to ESP-WROOM-02U_2MB]

## EP4CE22F17I7N
designator DD?
FPGA; Manufacturer_Name: Intel; Manufacturer_Part_Number: EP4CE22F17I7N; Datasheet Link: https://componentsearchengine.com/Datasheets/1/EP4CE22F17I7N.pdf; Height: 1.55mm; Mouser Part Number: 989-EP4CE22F17I7N; Mouser Price/Stock: https://www.mouser.co.uk/ProductDetail/Intel-Altera/EP4CE22F17I7N?qs=jblrfmjbeiH%2FPT5k%2FC0CEQ%3D%3D; Arrow Part Number: EP4CE22F17I7N; Arrow Price/Stock: https://www.arrow.com/en/products/ep4ce22f17i7n/intel
footprint FBGA256_A-155 (BGA, 256-Leads, Body 17x17mm, Pitch 1mm)
part A pins: B1 IO_13, C2 IO_26, D1 IO_35, E1 CLK1, F1 IO_53, F2 IO_54, F3 IO_55, G1 IO_62, G2 IO_63, G5 IO_64
part B pins: J1 IO_68, J2 IO_69, K1 IO_74, K2 IO_75, K5 IO_76, L1 IO_79, L2 IO_80, L3 IO_81, L4 IO_82, M1 CLK3, M2 CLK2, N1 IO_93, N2 IO_94, P1 IO_105, P2 IO_106, R1 IO_115
part C pins: L7 IO_83, L8 IO_84, M6 IO_89, M7 IO_90, M8 IO_91, N3 IO_95, N5 IO_96, N6 IO_97, N8 IO_98, P3 IO_107, P6 IO_108, P8 IO_109, R3 IO_116, R4 IO_117, R5 IO_118, R6 IO_119, R7 IO_120, R8 CLK15, T2 IO_127, T3 IO_128, T4 IO_129, T5 IO_130, T6 IO_131, T7 IO_132, T8 CLK14
part D pins: M10 IO_92, N9 IO_99, N11 IO_100, N12 IO_101, P9 IO_110, P11 IO_111, P14 IO_112, R9 CLK13, R10 IO_121, R11 IO_122, R12 IO_123, R13 IO_124, R14 IO_125, T9 CLK12, T10 IO_133, T11 IO_134, T12 IO_135, T13 IO_136, T14 IO_137, T15 IO_138
part E pins: J13 IO_70, J14 IO_71, J15 IO_72, J16 IO_73, K15 IO_77, K16 IO_78, L13 IO_85, L14 IO_86, L15 IO_87, L16 IO_88, M15 CLK6, M16 CLK7, N14 IO_102, N15 IO_103, N16 IO_104, P15 IO_113, P16 IO_114, R16 IO_126
part F pins: B16 IO_24, C15 IO_33, C16 IO_34, D15 IO_45, D16 IO_46, E15 CLK4, E16 CLK5, F13 IO_58, F14 IO_59, F15 IO_60, F16 IO_61, G15 IO_65, G16 IO_66
part G pins: A9 CLK8, A10 IO_7, A11 IO_8, A12 IO_9, A13 IO_10, A14 IO_11, A15 IO_12, B9 CLK9, B10 IO_19, B11 IO_20, B12 IO_21, B13 IO_22, B14 IO_23, C9 IO_30, C11 IO_31, C14 IO_32, D9 IO_41, D11 IO_42, D12 IO_43, D14 IO_44, E9 IO_50, E10 IO_51, E11 IO_52, F9 IO_57
part H pins: A2 IO_1, A3 IO_2, A4 IO_3, A5 IO_4, A6 IO_5, A7 IO_6, A8 CLK10, B3 IO_14, B4 IO_15, B5 IO_16, B6 IO_17, B7 IO_18, B8 CLK11, C3 IO_27, C6 IO_28, C8 IO_29, D3 IO_37, D5 IO_38, D6 IO_39, D8 IO_40, E6 IO_47, E7 IO_48, E8 IO_49, F8 IO_56
part I pins: C1 IO_25, D2 IO_36, F4 NSTATUS, G12 MSEL2, H1 DCLK, H2 IO_67, H3 TCK, H4 TDI, H5 NCONFIG, H12 MSEL1, H13 MSEL0, H14 CONF_DONE, J3 NCE, J4 TDO, J5 TMS
part J pins: B2 GND_1, B15 GND_2, C5 GND_3, C12 GND_4, D7 GND_5, D10 GND_6, E2 GND_7, E4 GND_8, E5 GNDA3, E12 GNDA2, E13 GND_9, F6 GND_10, F10 GND_11, G4 GND_12, G11 GND_13, G13 GND_14, H7 GND_15, H8 GND_16, H9 GND_17, H10 GND_18, H15 GND_19, H16 GND_20, J7 GND_21, J8 GND_22, J9 GND_23, J10 GND_24, J11 GND_25, K4 GND_26, K6 GND_27, K8 GND_28, K12 GND_29, K13 GND_30, L9 GND_31, L10 GND_32, L11 GND_33, M4 GND_34, M5 GNDA1, M12 GNDA4, M13 GND_35, N7 GND_36, N10 GND_37, P5 GND_38, P12 GND_39, R2 GND_40, R15 GND_41
part K pins: A1 VCCIO8_1, A16 VCCIO7_1, C4 VCCIO8_2, C7 VCCIO8_3, C10 VCCIO7_2, C13 VCCIO7_3, D4 VCCD_PLL3, D13 VCCD_PLL2, E3 VCCIO1_1, E14 VCCIO6_1, F5 VCCA3, F7 VCCINT_1, F11 VCCINT_2, F12 VCCA2, G3 VCCIO1_2, G6 VCCINT_3, G7 VCCINT_4, G8 VCCINT_5, G9 VCCINT_6, G10 VCCINT_7, G14 VCCIO6_2, H6 VCCINT_8, H11 VCCINT_9, J6 VCCINT_10, J12 VCCINT_11, K3 VCCIO2_1, K7 VCCINT_12, K9 VCCINT_13, K10 VCCINT_14, K11 VCCINT_15, K14 VCCIO5_1, L5 VCCA1, L6 VCCINT_16, L12 VCCA4, M3 VCCIO2_2, M9 VCCINT_17, M11 VCCINT_18, M14 VCCIO5_2, N4 VCCD_PLL1, N13 VCCD_PLL4, P4 VCCIO3_1, P7 VCCIO3_2, P10 VCCIO4_1, P13 VCCIO4_2, T1 VCCIO3_3, T16 VCCIO4_3
part A text: BANK1
part B text: BANK2
part C text: BANK3
part D text: BANK4
part E text: BANK5
part F text: BANK6
part G text: BANK7
part H text: BANK8
part I text: CONF
part J text: GND
part K text: VCC

## ESP32-WROOM-32U_4Mb
designator DD?
footprint ESP32-WROOM-32U(4_Mb) (DD?)
pins: 1 GND_1, 2 3V3, 3 EN, 4 SENSOR_VP, 5 SENSOR_VN, 6 IO34, 7 IO35, 8 IO32, 9 IO33, 10 IO25, 11 IO26, 12 IO27, 13 IO14, 14 IO12, 15 GND_2, 16 IO13, 17 SD2, 18 SD3, 19 CMD, 20 CLK, 21 SD0, 22 SD1, 23 IO15, 24 IO2, 25 IO0, 26 IO4, 27 IO16, 28 IO17, 29 IO5, 30 IO18, 31 IO19, 33 IO21, 34 RXD0, 35 TXD0, 36 IO22, 37 IO23, 38 GND_3, 39 EP

## ESP-WROOM-02U_2MB
designator DD?
footprint ESP-WROOM-02U_2MB (DD?)
pins: 1 3V3, 2 EN, 3 IO14, 4 IO12, 5 IO13, 6 IO15, 7 IO2, 8 IO0, 9 GND_1, 10 IO4, 11 RXD, 12 TXD, 13 GND_2, 14 IO5, 15 RST, 16 TOUT, 17 IO16, 18 GND_3, 19 EP

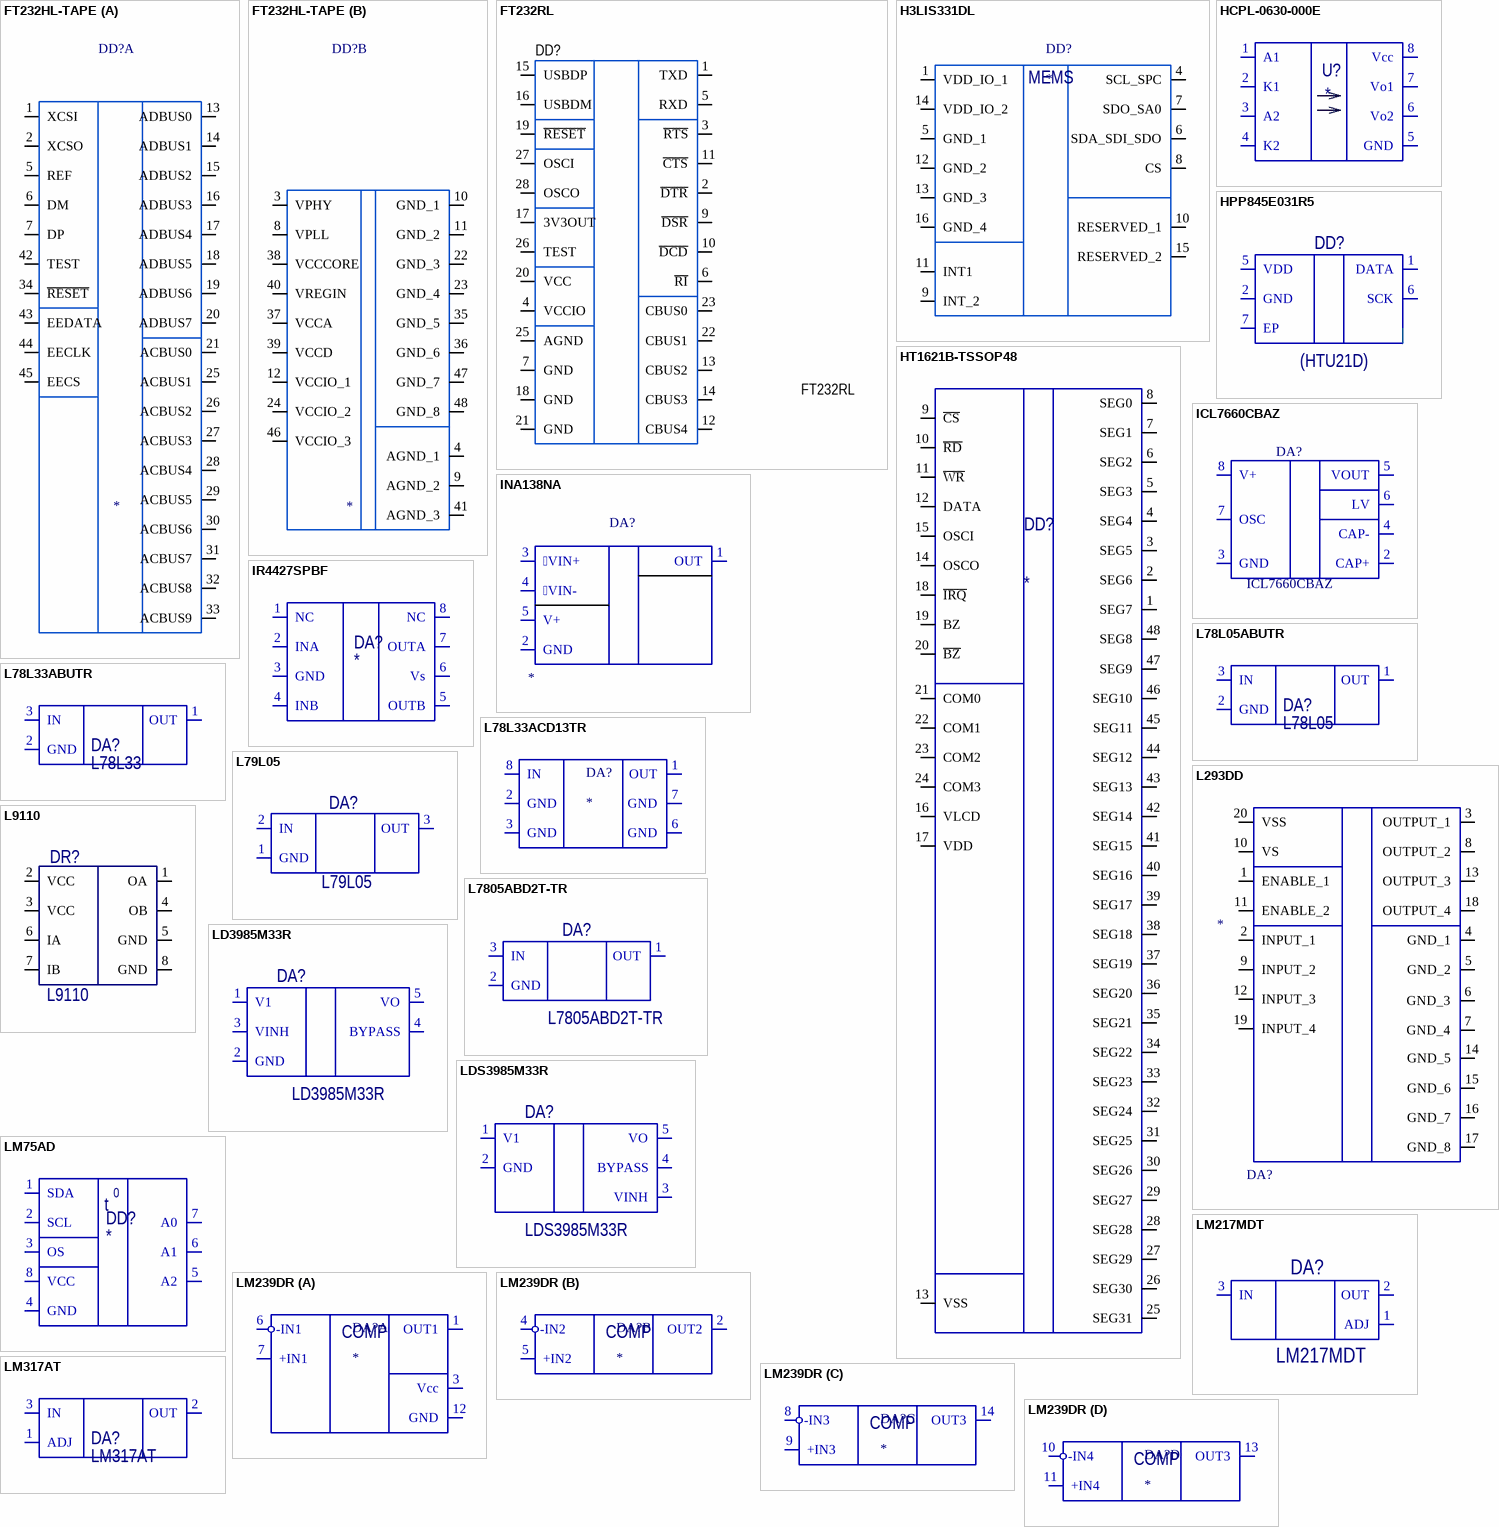
[diagram p5: symbols FT232HL-TAPE to LM317AT]

## FT232HL-TAPE
designator DD?
Преобразователь USB-UART/FIFO; Manufacturer_Name: FTDI Chip; Manufacturer_Part_Number: FT232HL-TAPE; Height: 1.6mm
footprint LQFP48 (TSQFP, 48-Leads, Body 7,00x7,00mm, Pitch 0,50mm, IPC Medium Density)
part A pins: 1 XCSI, 2 XCSO, 5 REF, 6 DM, 7 DP, 13 ADBUS0, 14 ADBUS1, 15 ADBUS2, 16 ADBUS3, 17 ADBUS4, 18 ADBUS5, 19 ADBUS6, 20 ADBUS7, 21 ACBUS0, 25 ACBUS1, 26 ACBUS2, 27 ACBUS3, 28 ACBUS4, 29 ACBUS5, 30 ACBUS6, 31 ACBUS7, 32 ACBUS8, 33 ACBUS9, 34 ~{RESET}, 42 TEST, 43 EEDATA, 44 EECLK, 45 EECS
part B pins: 3 VPHY, 4 AGND_1, 8 VPLL, 9 AGND_2, 10 GND_1, 11 GND_2, 12 VCCIO_1, 22 GND_3, 23 GND_4, 24 VCCIO_2, 35 GND_5, 36 GND_6, 37 VCCA, 38 VCCCORE, 39 VCCD, 40 VREGIN, 41 AGND_3, 46 VCCIO_3, 47 GND_7, 48 GND_8

## FT232RL
designator DD?
USB UART Asynchronous Serial Data Transfer Chip, SSOP-28, Pb-Free; PackageReference: SSOP-28 (MO-150-AH); PackageDescription: SOP, 28-Leads, Body 10,2x5,3mm (max), Pitch 0,65mm, IPC Low Density; Code_JEDEC: MO-150-AH; Temperature Range: *
footprint SSOP-28 (MO-150-AH) (SOP, 28-Leads, Body 10,2x5,3mm (max), Pitch 0,65mm, IPC Low Density)
footprint SSOP-28 (MO-150-AH) (SOP, 28-Leads, Body 10,2x5,3mm (max), Pitch 0,65mm, IPC Low Density)
pins: 1 TXD, 2 ~{DTR}, 3 ~{RTS}, 4 VCCIO, 5 RXD, 6 ~{RI}, 7 GND, 8 NC hidden, 9 ~{DSR}, 10 ~{DCD}, 11 ~{CTS}, 12 CBUS4, 13 CBUS2, 14 CBUS3, 15 USBDP, 16 USBDM, 17 3V3OUT, 18 GND, 19 ~{RESET}, 20 VCC, 21 GND, 22 CBUS1, 23 CBUS0, 24 NC hidden, 25 AGND, 26 TEST, 27 OSCI, 28 OSCO

## H3LIS331DL
designator DD?
MEMS motion sensor low-power high-g 3-axis digital accelerometer; Manufacturer_Name: STMicroelectronics; Manufacturer_Part_Number: H3LIS331DL; Datasheet Link: http://www.st.com/st-web-ui/static/active/en/resource/technical/document/datasheet/DM00053090.pdf; Height: 1mm; Mouser Part Number: 511-H3LIS331DL; Mouser Price/Stock: https://www.mouser.co.uk/ProductDetail/STMicroelectronics/H3LIS331DL?qs=TAo1I7FhABscb2spafvd4Q%3D%3D; Arrow Part Number: H3LIS331DL; Arrow Price/Stock: https://www.arrow.com/en/products/h3lis331dl/stmicroelectronics?region=europe
footprint TFLGA-16L
pins: 1 VDD_IO_1, 4 SCL_SPC, 5 GND_1, 6 SDA_SDI_SDO, 7 SDO_SA0, 8 CS, 9 INT_2, 10 RESERVED_1, 11 INT1, 12 GND_2, 13 GND_3, 14 VDD_IO_2, 15 RESERVED_2, 16 GND_4
text: MEMS

## HCPL-0630-000E
designator U?
Оптопара двухканальная с логическими уровнями на выходе
footprint SO-8-HCPL
pins: 1 A1, 2 K1, 3 A2, 4 K2, 5 GND, 6 Vo2, 7 Vo1, 8 Vcc

## HPP845E031R5
designator DD?, comment (HTU21D)
Digital Relative Humidity sensor with / Temperature output
footprint DFN-6 (SON, 6-Leads, Body 3.00x3.00mm, Pitch 1.00mm, Thermal Pad 2.40x1.50mm, IPC Medium Density)
pins: 1 DATA, 2 GND, 5 VDD, 6 SCK, 7 EP

## HT1621B-TSSOP48
designator DD?
RAM Mapping 324 LCD Controller for I/O MCU
footprint TSSOP-48 (SOP, 48-Leads, Body 15.9x7.5mm, Pitch 0.635mm, IPC Medium Density)
pins: 1 SEG7, 2 SEG6, 3 SEG5, 4 SEG4, 5 SEG3, 6 SEG2, 7 SEG1, 8 SEG0, 9 ~{CS}, 10 ~{RD}, 11 ~{WR}, 12 DATA, 13 VSS, 14 OSCO, 15 OSCI, 16 VLCD, 17 VDD, 18 ~{IRQ}, 19 BZ, 20 ~{BZ}, 21 COM0, 22 COM1, 23 COM2, 24 COM3, 25 SEG31, 26 SEG30, 27 SEG29, 28 SEG28, 29 SEG27, 30 SEG26, 31 SEG25, 32 SEG24, 33 SEG23, 34 SEG22, 35 SEG21, 36 SEG20, 37 SEG19, 38 SEG18, 39 SEG17, 40 SEG16, 41 SEG15, 42 SEG14, 43 SEG13, 44 SEG12, 45 SEG11, 46 SEG10, 47 SEG9, 48 SEG8

## ICL7660CBAZ
designator DA?
Инвертирующий преобразователь напряжения
footprint SO-8 (SOIC, 8-Leads, Body 4,90x3,90mm, Pitch 1,27mm, IPC Medium Density)
pins: 2 CAP+, 3 GND, 4 CAP-, 5 VOUT, 6 LV, 7 OSC, 8 V+

## INA138NA
designator DA?
Монитор тока; Manufacturer_Name: Texas Instruments; Manufacturer_Part_Number: INA138NA/250; Datasheet Link: http://www.ti.com/lit/ds/symlink/ina138.pdf; Height: 1.45mm; Mouser Part Number: 595-INA138NA/250; Mouser Price/Stock: https://www.mouser.co.uk/ProductDetail/Texas-Instruments/INA138NA-250?qs=VBduBm9rCJT3HwLFPta9GA%3D%3D; Arrow Part Number: INA138NA/250; Arrow Price/Stock: https://www.arrow.com/en/products/ina138na250/texas-instruments?region=nac
footprint SOT-23-5 (SOT23, 5-Leads, Body 2,90x2,80mm, Pitch 0,95mm, IPC Medium Density)
pins: 1 OUT, 2 GND, 3 VIN+, 4 VIN-, 5 V+

## IR4427SPBF
designator DA?
MOSFET & IGBT Drivers, Low Side, Infineon
footprint SO-8 (SOIC, 8-Leads, Body 4,90x3,90mm, Pitch 1,27mm, IPC Medium Density)
pins: 1 NC, 2 INA, 3 GND, 4 INB, 5 OUTB, 6 Vs, 7 OUTA, 8 NC

## L78L05ABUTR
designator DA?, comment L78L05
footprint SOT89 (SOT89, 3-Leads, Body 4.50x2.45mm, Pitch 1.50mm, Lead Span 4.1mm, IPC Medium Density)
pins: 1 OUT, 2 GND, 3 IN

## L78L33ABUTR
designator DA?, comment L78L33
footprint SOT89 (SOT89, 3-Leads, Body 4.50x2.45mm, Pitch 1.50mm, Lead Span 4.1mm, IPC Medium Density)
pins: 1 OUT, 2 GND, 3 IN

## L78L33ACD13TR
designator DA?
footprint SO-8 (SOIC, 8-Leads, Body 4,90x3,90mm, Pitch 1,27mm, IPC Medium Density)
pins: 1 OUT, 2 GND, 3 GND, 6 GND, 7 GND, 8 IN

## L79L05
designator DA?
footprint SOT89 (SOT89, 3-Leads, Body 4.50x2.45mm, Pitch 1.50mm, Lead Span 4.1mm, IPC Medium Density)
pins: 1 GND, 2 IN, 3 OUT

## L293DD
designator DA?
Двухтактный, четырехканальный драйвер двигателей постоянного тока, с защитными диодами; Manufacturer_Name: STMicroelectronics; Manufacturer_Part_Number: L293DD; Datasheet Link: https://www.st.com/resource/en/datasheet/l293d.pdf; Height: 2.65mm; Mouser Part Number: 511-L293DD; Mouser Price/Stock: https://www.mouser.co.uk/ProductDetail/STMicroelectronics/L293DD?qs=m4gxtLzGBzoksItTiSkcgg%3D%3D; Arrow Part Number: L293DD; Arrow Price/Stock: https://www.arrow.com/en/products/l293dd/stmicroelectronics?region=nac
footprint SOIC127P1032X265-20N
pins: 1 ENABLE_1, 2 INPUT_1, 3 OUTPUT_1, 4 GND_1, 5 GND_2, 6 GND_3, 7 GND_4, 8 OUTPUT_2, 9 INPUT_2, 10 VS, 11 ENABLE_2, 12 INPUT_3, 13 OUTPUT_3, 14 GND_5, 15 GND_6, 16 GND_7, 17 GND_8, 18 OUTPUT_4, 19 INPUT_4, 20 VSS

## L7805ABD2T-TR
designator DA?
footprint D2PAK
pins: 1 OUT, 2 GND, 3 IN

## L9110
designator DR?
Manufacturer_Name: Analog Devices; Manufacturer_Part_Number: AD620ARZ; Datasheet Link: https://componentsearchengine.com/Datasheets/2/AD620ARZ.pdf; Height: 1.75mm; Mouser Part Number: 584-AD620ARZ; Mouser Price/Stock: https://www.mouser.co.uk/ProductDetail/Analog-Devices/AD620ARZ?qs=NmRFExCfTkFljAdgs5eriQ%3D%3D; Arrow Part Number: AD620ARZ; Arrow Price/Stock: https://www.arrow.com/en/products/ad620arz/analog-devices?region=nac
footprint SOP-8
pins: 1 OA, 2 VCC, 3 VCC, 4 OB, 5 GND, 6 IA, 7 IB, 8 GND

## LD3985M33R
designator DA?
Регулятор с низким падением напряжения и уровнем шума
footprint SOT23-5L (*)
pins: 1 V1, 2 GND, 3 VINH, 4 BYPASS, 5 VO

## LDS3985M33R
designator DA?
Линейный регулятор (LDO)
footprint SOT23-5L (DD?)
pins: 1 V1, 2 GND, 3 VINH, 4 BYPASS, 5 VO

## LM75AD
designator DD?
HelpURL: https://static.chipdip.ru/lib/301/DOC000301694.pdf
footprint SOIC8 (SOIC, 8-Leads, Body 4,90x3,90mm, Pitch 1,27mm, IPC Medium Density)
pins: 1 SDA, 2 SCL, 3 OS, 4 GND, 5 A2, 6 A1, 7 A0, 8 VCC
text: 0; t

## LM217MDT
designator DA?
Линейный регулятор с малым падением напряжения 1.5А ADJ [DPAK / TO-252]
footprint to-252 (D-PAK, 3-Pads, Body 6,15x6,65mm (max), IPC Medium Density)
pins: 1 ADJ, 2 OUT, 3 IN

## LM239DR
designator DA?
Квадрантный дифференциальный компаратор
footprint so-14 (SOIC, 14-Leads, Body 8,65x3,90mm, Pitch 1,27mm, IPC Medium Density)
part A pins: 1 OUT1, 3 Vcc, 6 -IN1, 7 +IN1, 12 GND
part B pins: 2 OUT2, 4 -IN2, 5 +IN2
part C pins: 8 -IN3, 9 +IN3, 14 OUT3
part D pins: 10 -IN4, 11 +IN4, 13 OUT3
part A text: COMP
part B text: COMP
part C text: COMP
part D text: COMP

## LM317AT
designator DA?
footprint TO220-3_
pins: 1 ADJ, 2 OUT, 3 IN

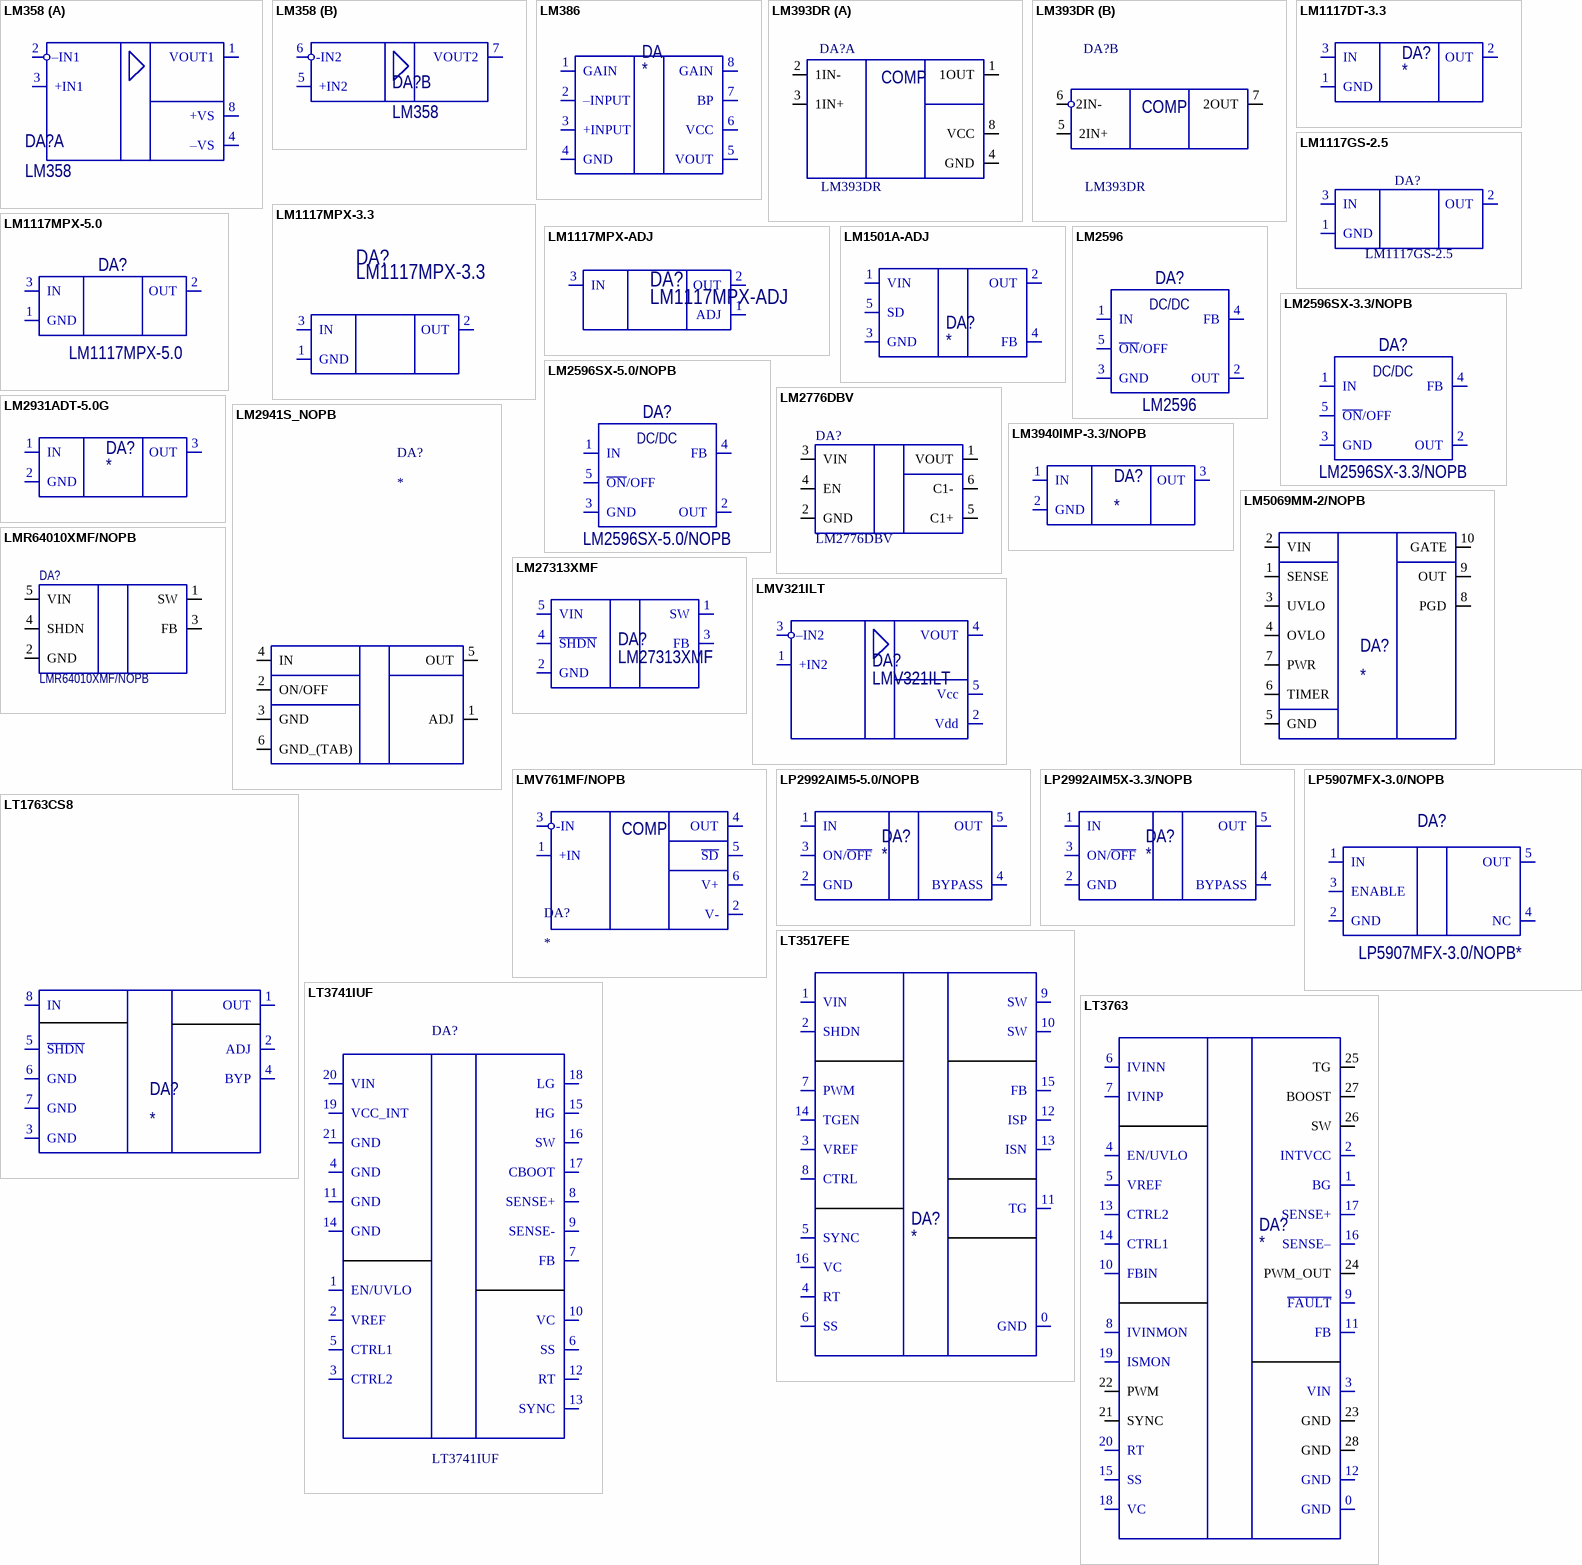
[diagram p6: symbols LM358 to LT3763]

## LM358
designator DA?
footprint SO-8 (SOIC, 8-Leads, Body 4,90x3,90mm, Pitch 1,27mm, IPC Medium Density)
part A pins: 1 VOUT1, 2 –IN1, 3 +IN1, 4 –VS, 8 +VS
part B pins: 5 +IN2, 6 -IN2, 7 VOUT2

## LM386
designator DA
Low Voltage Audio Power Amplifier
footprint SO-8 (SOIC, 8-Leads, Body 4,90x3,90mm, Pitch 1,27mm, IPC Medium Density)
footprint DIP8
pins: 1 GAIN, 2 –INPUT, 3 +INPUT, 4 GND, 5 VOUT, 6 VCC, 7 BP, 8 GAIN

## LM393DR
designator DA?
Двойной маломощный компаратор напряжения; Manufacturer_Name: Texas Instruments; Datasheet Link: https://www.ti.com/lit/ds/symlink/lm393.pdf?ts=1593083953253&ref_url=https%253A%252F%252Fwww.ti.com%252Fstore%252Fti%252Fen%252Fp%252Fproduct%252F%253Fp%253DLM393DR; Height: 1.75mm; Manufacturer_Part_Number: LM393DR; Mouser Part Number: 595-LM393DR; Mouser Price/Stock: https://www.mouser.co.uk/ProductDetail/Texas-Instruments/LM393DR?qs=8k%2FZSzWMuCP%2FrtMSX0i7pQ%3D%3D; Arrow Part Number: LM393DR; Arrow Price/Stock: https://www.arrow.com/en/products/lm393dr/texas-instruments?region=nac
footprint SO-8 (SOIC, 8-Leads, Body 4,90x3,90mm, Pitch 1,27mm, IPC Medium Density)
part A pins: 1 1OUT, 2 1IN-, 3 1IN+, 4 GND, 8 VCC
part B pins: 5 2IN+, 6 2IN-, 7 2OUT
part A text: COMP
part B text: COMP

## LM1117DT-3.3
designator DA?
HelpURL: https://static.chipdip.ru/lib/142/DOC000142693.pdf
footprint TO-252 (D-PAK, 3-Pads, Body 6,15x6,65mm (max), IPC Medium Density)
pins: 1 GND, 2 OUT, 3 IN

## LM1117GS-2.5
designator DA?
footprint SOT223 (SOT223, 4-Leads, Body 6,50x7,00mm (avg), Pitch 2,30mm, IPC Medium Density)
pins: 1 GND, 2 OUT, 3 IN

## LM1117MPX-3.3
designator DA?
footprint SOT223 (SOT223, 4-Leads, Body 6,50x7,00mm (avg), Pitch 2,30mm, IPC Medium Density)
pins: 1 GND, 2 OUT, 3 IN

## LM1117MPX-5.0
designator DA?
footprint sot223 (SOT223, 4-Leads, Body 6,50x7,00mm (avg), Pitch 2,30mm, IPC Medium Density)
pins: 1 GND, 2 OUT, 3 IN

## LM1117MPX-ADJ
designator DA?
footprint SOT223 (SOT223, 4-Leads, Body 6,50x7,00mm (avg), Pitch 2,30mm, IPC Medium Density)
pins: 1 ADJ, 2 OUT, 3 IN

## LM1501A-ADJ
designator DA?
footprint to263-5
pins: 1 VIN, 2 OUT, 3 GND, 4 FB, 5 SD

## LM2596
designator DA?
Понижающий DC-DC преобразователь, до 3А, 150 кГц; PartNumber: LM2596
footprint to263-5
pins: 1 IN, 2 OUT, 3 GND, 4 FB, 5 ~{ON}/OFF
text: DC/DC

## LM2596SX-3.3/NOPB
designator DA?
Понижающий DC-DC преобразователь 3В, до 3А, 150 кГц; PartNumber: LM2596
footprint to263-5
pins: 1 IN, 2 OUT, 3 GND, 4 FB, 5 ~{ON}/OFF
text: DC/DC

## LM2596SX-5.0/NOPB
designator DA?
Понижающий DC-DC преобразователь 5В, до 3А, 150 кГц; PartNumber: LM2596
footprint to263-5
pins: 1 IN, 2 OUT, 3 GND, 4 FB, 5 ~{ON}/OFF
text: DC/DC

## LM2776DBV
designator DA?
Переключаемый Конденсаторный инвертор
footprint SOT-23-6 (SOT23, 6-Leads, Body 1,60x1,60mm, Pitch 0,50mm, IPC Medium Density)
pins: 1 VOUT, 2 GND, 3 VIN, 4 EN, 5 C1+, 6 C1-

## LM2931ADT-5.0G
designator DA?
footprint TO-252 (D-PAK, 3-Pads, Body 6,15x6,65mm (max), IPC Medium Density)
pins: 1 IN, 2 GND, 3 OUT

## LM2941S_NOPB
designator DA?
1A Low Dropout Adjustable Regulator; Manufacturer_Name: Texas Instruments; Manufacturer_Part_Number: LM2941S/NOPB; Datasheet Link: http://www.ti.com/lit/ds/symlink/lm2941.pdf; Height: 4.65mm; Mouser Part Number: 926-LM2941S/NOPB; Mouser Price/Stock: https://www.mouser.co.uk/ProductDetail/Texas-Instruments/LM2941S-NOPB?qs=X1J7HmVL2ZFTQBDJ5GpX8w%3D%3D; Arrow Part Number: LM2941S/NOPB; Arrow Price/Stock: https://www.arrow.com/en/products/lm2941snopb/texas-instruments?region=nac
footprint TO-263
pins: 1 ADJ, 2 ON/OFF, 3 GND, 4 IN, 5 OUT, 6 GND_(TAB)

## LM3940IMP-3.3/NOPB
designator DA?
Регулятор с малым падением напряжения, преобразование 5В в 3.3В/ 1А
footprint SOT223 (SOT223, 4-Leads, Body 6,50x7,00mm (avg), Pitch 2,30mm, IPC Medium Density)
pins: 1 IN, 2 GND, 3 OUT

## LM5069MM-2/NOPB
designator DA?
Контроллер горячей замены, 9В до 80В питание, 12В выход [VSSOP-10]
footprint VSSOP-8
pins: 1 SENSE, 2 VIN, 3 UVLO, 4 OVLO, 5 GND, 6 TIMER, 7 PWR, 8 PGD, 9 OUT, 10 GATE

## LM27313XMF
designator DA?
HelpURL: http://www.ti.com/lit/ds/symlink/lm27313.pdf
footprint SOT-23-5 (SOT23, 5-Leads, Body 2,90x2,80mm, Pitch 0,95mm, IPC Medium Density)
pins: 1 SW, 2 GND, 3 FB, 4 ~{SHDN}, 5 VIN

## LMR64010XMF/NOPB
designator DA?
Преобразователь DC-DC повышающий 1А вход 3...40В выход 2.7...14В 1.6МГц [SOT-23-5]
footprint SOT-23-5 (SOT23, 5-Leads, Body 2,90x2,80mm, Pitch 0,95mm, IPC Medium Density)
pins: 1 SW, 2 GND, 3 FB, 4 SHDN, 5 VIN

## LMV321ILT
designator DA?
HelpURL: http://www.st.com/content/ccc/resource/technical/document/datasheet/b9/d8/3b/8f/a1/8f/46/01/CD00079372.pdf/files/CD00079372.pdf/jcr:content/translations/en.CD00079372.pdf
footprint SOT-23-5 (SOT23, 5-Leads, Body 2,90x2,80mm, Pitch 0,95mm, IPC Medium Density)
footprint SOT-23-5-105micron
pins: 1 +IN2, 2 Vdd, 3 –IN2, 4 VOUT, 5 Vcc

## LMV761MF/NOPB
designator DA?
Low-Voltage, Precision Comparator With Push-Pull Output; Manufacturer_Name: Texas Instruments; Manufacturer_Part_Number: LMV761MA/NOPB; Datasheet Link: http://www.ti.com/lit/ds/symlink/lmv761.pdf; Height: 1.75mm; Mouser Part Number: 926-LMV761MA/NOPB; Mouser Price/Stock: https://www.mouser.co.uk/ProductDetail/Texas-Instruments/LMV761MA-NOPB?qs=7lkVKPoqpbZWX5pwJic3Nw%3D%3D; Arrow Part Number: LMV761MA/NOPB; Arrow Price/Stock: https://www.arrow.com/en/products/lmv761manopb/texas-instruments
footprint SOT-23-6 (SOT23, 6-Leads, Body 1,60x1,60mm, Pitch 0,50mm, IPC Medium Density)
pins: 1 +IN, 2 V-, 3 -IN, 4 OUT, 5 ~{SD}, 6 V+
text: COMP

## LP2992AIM5-5.0/NOPB
designator DA?
Микромощный LDO регулятор напряжения, 5В, 250мА
footprint SOT-23-5 (SOT23, 5-Leads, Body 2,90x2,80mm, Pitch 0,95mm, IPC Medium Density)
pins: 1 IN, 2 GND, 3 ON/~{OFF}, 4 BYPASS, 5 OUT

## LP2992AIM5X-3.3/NOPB
designator DA?
Микромощный LDO регулятор напряжения, 3.3В, 250мА
footprint SOT-23-5 (SOT23, 5-Leads, Body 2,90x2,80mm, Pitch 0,95mm, IPC Medium Density)
pins: 1 IN, 2 GND, 3 ON/~{OFF}, 4 BYPASS, 5 OUT

## LP5907MFX-3.0/NOPB
designator DA?, comment LP5907MFX-3.0/NOPB*
LP5907MFX-3.0/NOPB, Линейный стабилизатор с низким падением напряжения +3В 0.25А [SOT-23-5]
footprint SOT-23-5 (SOT23, 5-Leads, Body 2,90x2,80mm, Pitch 0,95mm, IPC Medium Density)
pins: 1 IN, 2 GND, 3 ENABLE, 4 NC, 5 OUT

## LT1763CS8
designator DA?
500mA, Low Noise, LDO / Micropower Regulators
footprint so-8 (SOIC, 8-Leads, Body 4,90x3,90mm, Pitch 1,27mm, IPC Medium Density)
pins: 1 OUT, 2 ADJ, 3 GND, 4 BYP, 5 ~{SHDN}, 6 GND, 7 GND, 8 IN

## LT3517EFE
designator DA?
Full-Featured LED Driver / with 1.5A Switch Current; ComponentLink1Description: DS; ComponentLink1URL: https://www.analog.com/media/en/technical-documentation/data-sheets/3517fh.pdf
footprint TSSOP-16 (TSOP, 16-Leads, Body 5,00x4,40mm, Pitch 0,65mm, IPC Medium Density)
pins: 0 GND, 1 VIN, 2 SHDN, 3 VREF, 4 RT, 5 SYNC, 6 SS, 7 PWM, 8 CTRL, 9 SW, 10 SW, 11 TG, 12 ISP, 13 ISN, 14 TGEN, 15 FB, 16 VC

## LT3741IUF
designator DA?
Понижающий DC-DC контроллер напряжения; Manufacturer_Name: Analog Devices; Manufacturer_Part_Number: LT3741IUFPBF
footprint 20-WFQFN
pins: 1 EN/UVLO, 2 VREF, 3 CTRL2, 4 GND, 5 CTRL1, 6 SS, 7 FB, 8 SENSE+, 9 SENSE-, 10 VC, 11 GND, 12 RT, 13 SYNC, 14 GND, 15 HG, 16 SW, 17 CBOOT, 18 LG, 19 VCC_INT, 20 VIN, 21 GND

## LT3763
designator DA?
footprint TSSOP-28 Exposed Pad (TSOP, 28-Leads, Body 9.70x4.40mm, Pitch 0.65mm, IPC Medium Density)
pins: 0 GND, 1 BG, 2 INTVCC, 3 VIN, 4 EN/UVLO, 5 VREF, 6 IVINN, 7 IVINP, 8 IVINMON, 9 ~{FAULT}, 10 FBIN, 11 FB, 12 GND, 13 CTRL2, 14 CTRL1, 15 SS, 16 SENSE–, 17 SENSE+, 18 VC, 19 ISMON, 20 RT, 21 SYNC, 22 PWM, 23 GND, 24 PWM_OUT, 25 TG, 26 SW, 27 BOOST, 28 GND

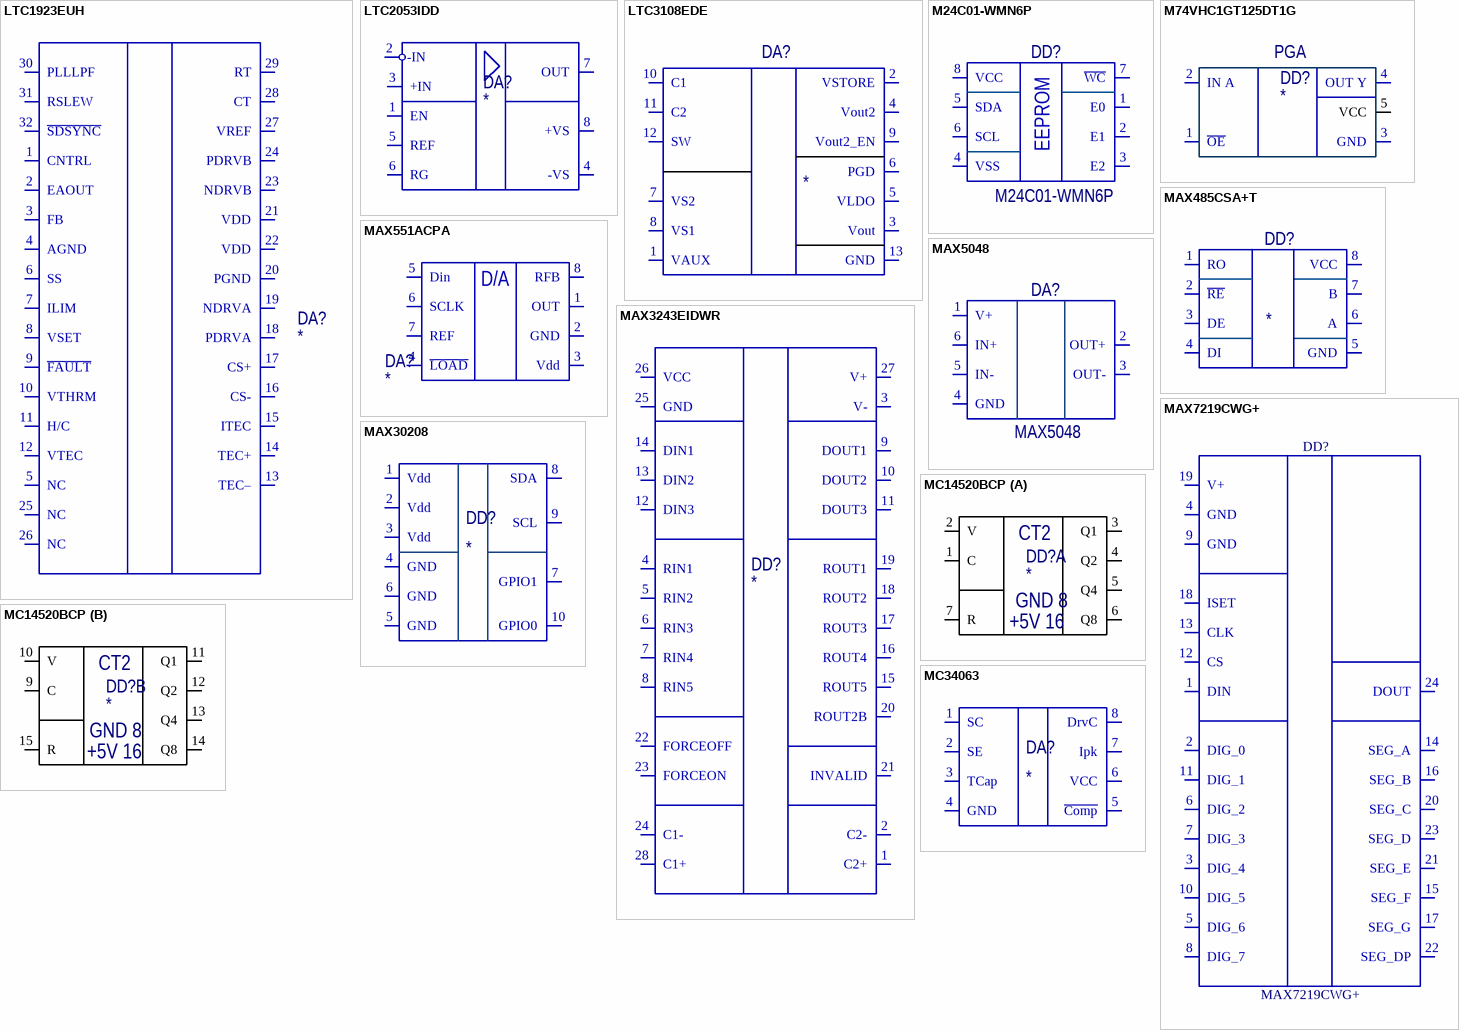
[diagram p7: symbols LTC1923EUH to MC34063]

## LTC1923EUH
designator DA?
IC THERMOELEC COOLER
footprint 32-WFQFN Exposed Pad (QFN, 32-Leads, Body 5.00x5.00mm, Pitch 0.50mm, Thermal Pad 3.45x3.45mm, IPC Medium Density)
pins: 1 CNTRL, 2 EAOUT, 3 FB, 4 AGND, 5 NC, 6 SS, 7 ILIM, 8 VSET, 9 ~{FAULT}, 10 VTHRM, 11 H/C, 12 VTEC, 13 TEC–, 14 TEC+, 15 ITEC, 16 CS-, 17 CS+, 18 PDRVA, 19 NDRVA, 20 PGND, 21 VDD, 22 VDD, 23 NDRVB, 24 PDRVB, 25 NC, 26 NC, 27 VREF, 28 CT, 29 RT, 30 PLLLPF, 31 RSLEW, 32 ~{SDSYNC}

## LTC2053IDD
designator DA?
Precision, Rail-to-Rail, Zero-Drift, Resistor-Programmable Instrumentation Amplifier
footprint 8-WFDFN Exposed Pad (PSON, 8-Leads, Body 3.00x3.00mm, Pitch 0.50mm, Thermal Pad 2.38x1.34mm, IPC Medium Density)
pins: 1 EN, 2 -IN, 3 +IN, 4 -VS, 5 REF, 6 RG, 7 OUT, 8 +VS

## LTC3108EDE
designator DA?
Ultralow Voltage Step-Up Converter and Power Manager
footprint DFN-12 (SON, 12-Leads, Body 4.00x3.00mm, Pitch 0.50mm, Thermal Pad 3.30x1.70mm, IPC Medium Density)
pins: 1 VAUX, 2 VSTORE, 3 Vout, 4 Vout2, 5 VLDO, 6 PGD, 7 VS2, 8 VS1, 9 Vout2_EN, 10 C1, 11 C2, 12 SW, 13 GND

## M24C01-WMN6P
designator DD?
EEPROM Serial-I2C, 1K-bit (128 x 8), 3.3V/5V [SO-8]
footprint SO-8 (SOIC, 8-Leads, Body 4,90x3,90mm, Pitch 1,27mm, IPC Medium Density)
pins: 1 E0, 2 E1, 3 E2, 4 VSS, 5 SDA, 6 SCL, 7 ~{WC}, 8 VCC
text: EEPROM

## M74VHC1GT125DT1G
designator DD?
Noninverting Buffer / / CMOS Logic Level Shifter
footprint SOT-23-5 (SOT23, 5-Leads, Body 2,90x2,80mm, Pitch 0,95mm, IPC Medium Density)
pins: 1 ~{OE}, 2 IN A, 3 GND, 4 OUT Y, 5 VCC
text: PGA

## MAX485CSA+T
designator DD?
Приемопередатчик RS-485/RS-422 с ограничением скорости нарастания вых. сигнала, маломощный, [SO-8]
footprint so-8 (SOIC, 8-Leads, Body 4,90x3,90mm, Pitch 1,27mm, IPC Medium Density)
pins: 1 RO, 2 ~{RE}, 3 DE, 4 DI, 5 GND, 6 A, 7 B, 8 VCC

## MAX551ACPA
designator DA?
footprint DIP8
footprint SOIC8 (SOIC, 8-Leads, Body 4,90x3,90mm, Pitch 1,27mm, IPC Medium Density)
pins: 1 OUT, 2 GND, 3 Vdd, 4 ~{LOAD}, 5 Din, 6 SCLK, 7 REF, 8 RFB
text: D/A

## MAX3243EIDWR
designator DD?
footprint SO-28 (SOIC, 28-Leads, Body 17.90x7.50mm, Pitch 1.27mm, IPC Medium Density)
pins: 1 C2+, 2 C2-, 3 V-, 4 RIN1, 5 RIN2, 6 RIN3, 7 RIN4, 8 RIN5, 9 DOUT1, 10 DOUT2, 11 DOUT3, 12 DIN3, 13 DIN2, 14 DIN1, 15 ROUT5, 16 ROUT4, 17 ROUT3, 18 ROUT2, 19 ROUT1, 20 ROUT2B, 21 INVALID, 22 FORCEOFF, 23 FORCEON, 24 C1-, 25 GND, 26 VCC, 27 V+, 28 C1+

## MAX5048
designator DA?
ComponentLink1Description: MAX5048; ComponentLink1URL: https://datasheets.maximintegrated.com/en/ds/MAX5048-MAX5048B.pdf
footprint SOT-23-6 (SOT23, 6-Leads, Body 1,60x1,60mm, Pitch 0,50mm, IPC Medium Density)
pins: 1 V+, 2 OUT+, 3 OUT-, 4 GND, 5 IN-, 6 IN+

## MAX7219CWG+
designator DD?
Драйвер lED дисплеев 8 бит
footprint SOIC-24W
pins: 1 DIN, 2 DIG_0, 3 DIG_4, 4 GND, 5 DIG_6, 6 DIG_2, 7 DIG_3, 8 DIG_7, 9 GND, 10 DIG_5, 11 DIG_1, 12 CS, 13 CLK, 14 SEG_A, 15 SEG_F, 16 SEG_B, 17 SEG_G, 18 ISET, 19 V+, 20 SEG_C, 21 SEG_E, 22 SEG_DP, 23 SEG_D, 24 DOUT

## MAX30208
designator DD?
±0.1°C Accurate, I2C Digital Temperature Sensor
footprint MAX30208CLB
pins: 1 Vdd, 2 Vdd, 3 Vdd, 4 GND, 5 GND, 6 GND, 7 GPIO1, 8 SDA, 9 SCL, 10 GPIO0

## MC14520BCP
designator DD?
footprint DIP16
part A pins: 1 C, 2 V, 3 Q1, 4 Q2, 5 Q4, 6 Q8, 7 R, 8 hidden to GND, 16 hidden to +5V
part B pins: 9 C, 10 V, 11 Q1, 12 Q2, 13 Q4, 14 Q8, 15 R
part A text: CT2; GND 8; +5V 16
part B text: CT2; GND 8; +5V 16

## MC34063
designator DA?
footprint SO-8 (SOIC, 8-Leads, Body 4,90x3,90mm, Pitch 1,27mm, IPC Medium Density)
pins: 1 SC, 2 SE, 3 TCap, 4 GND, 5 ~{Comp}, 6 VCC, 7 Ipk, 8 DrvC

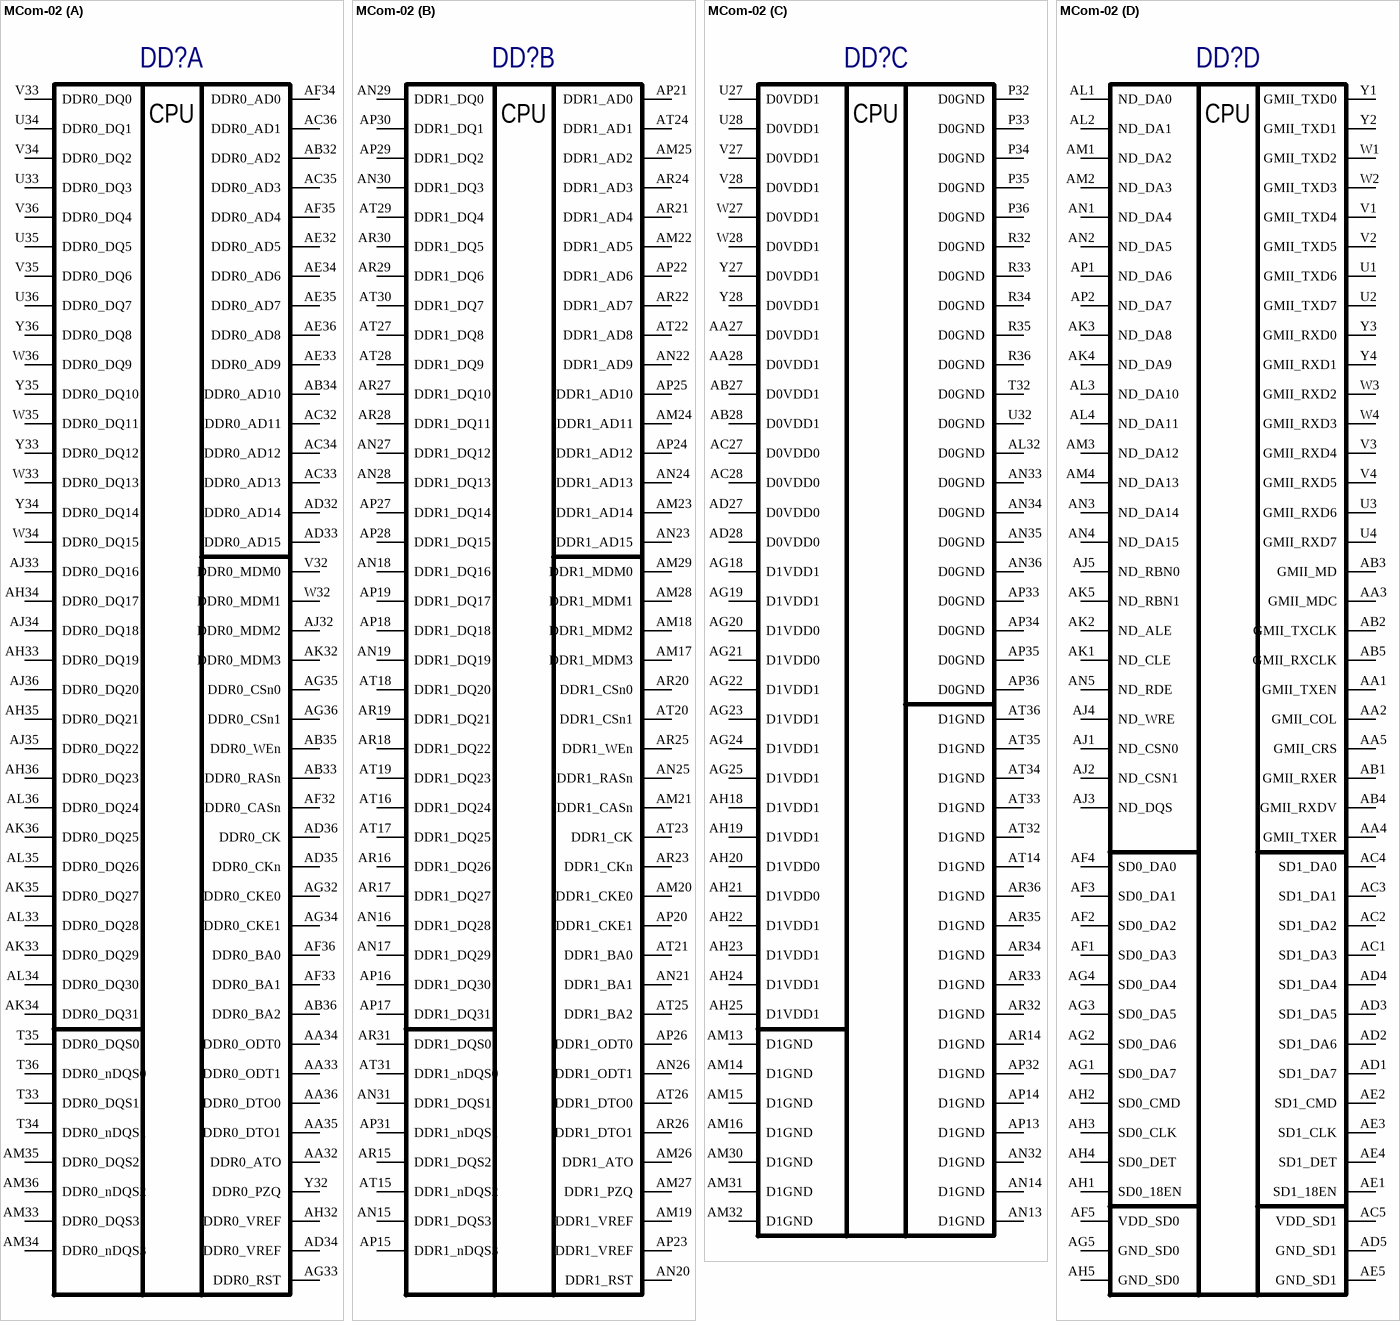
[diagram p8: symbol MCom-02]

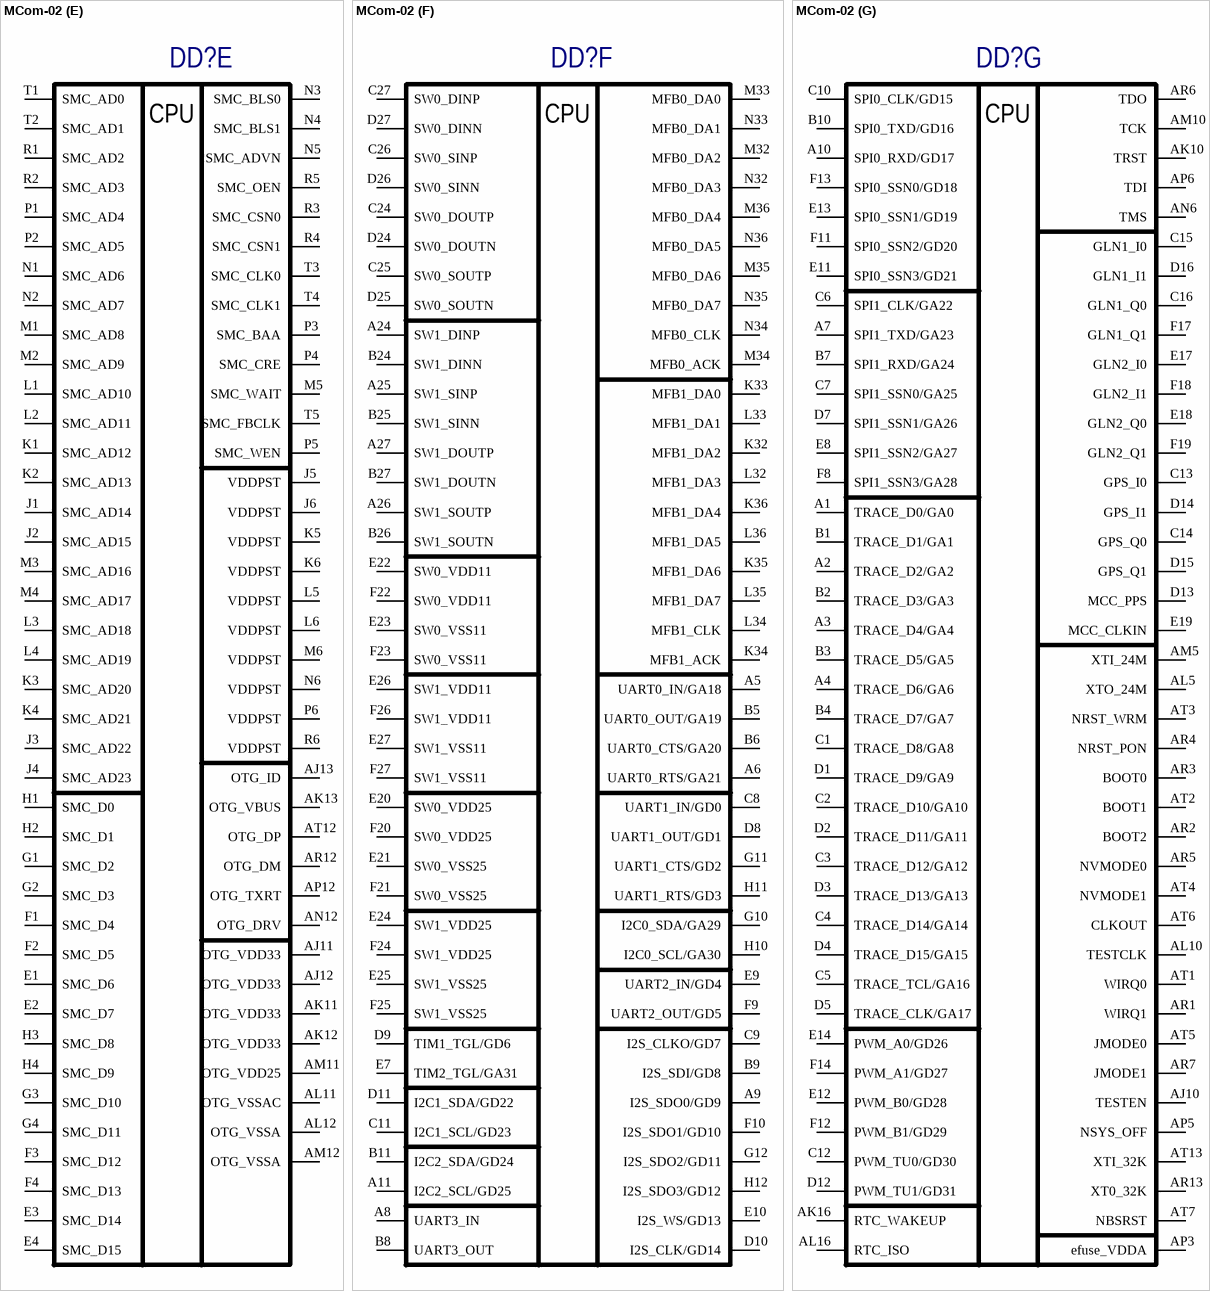
[diagram p9: symbol MCom-02]

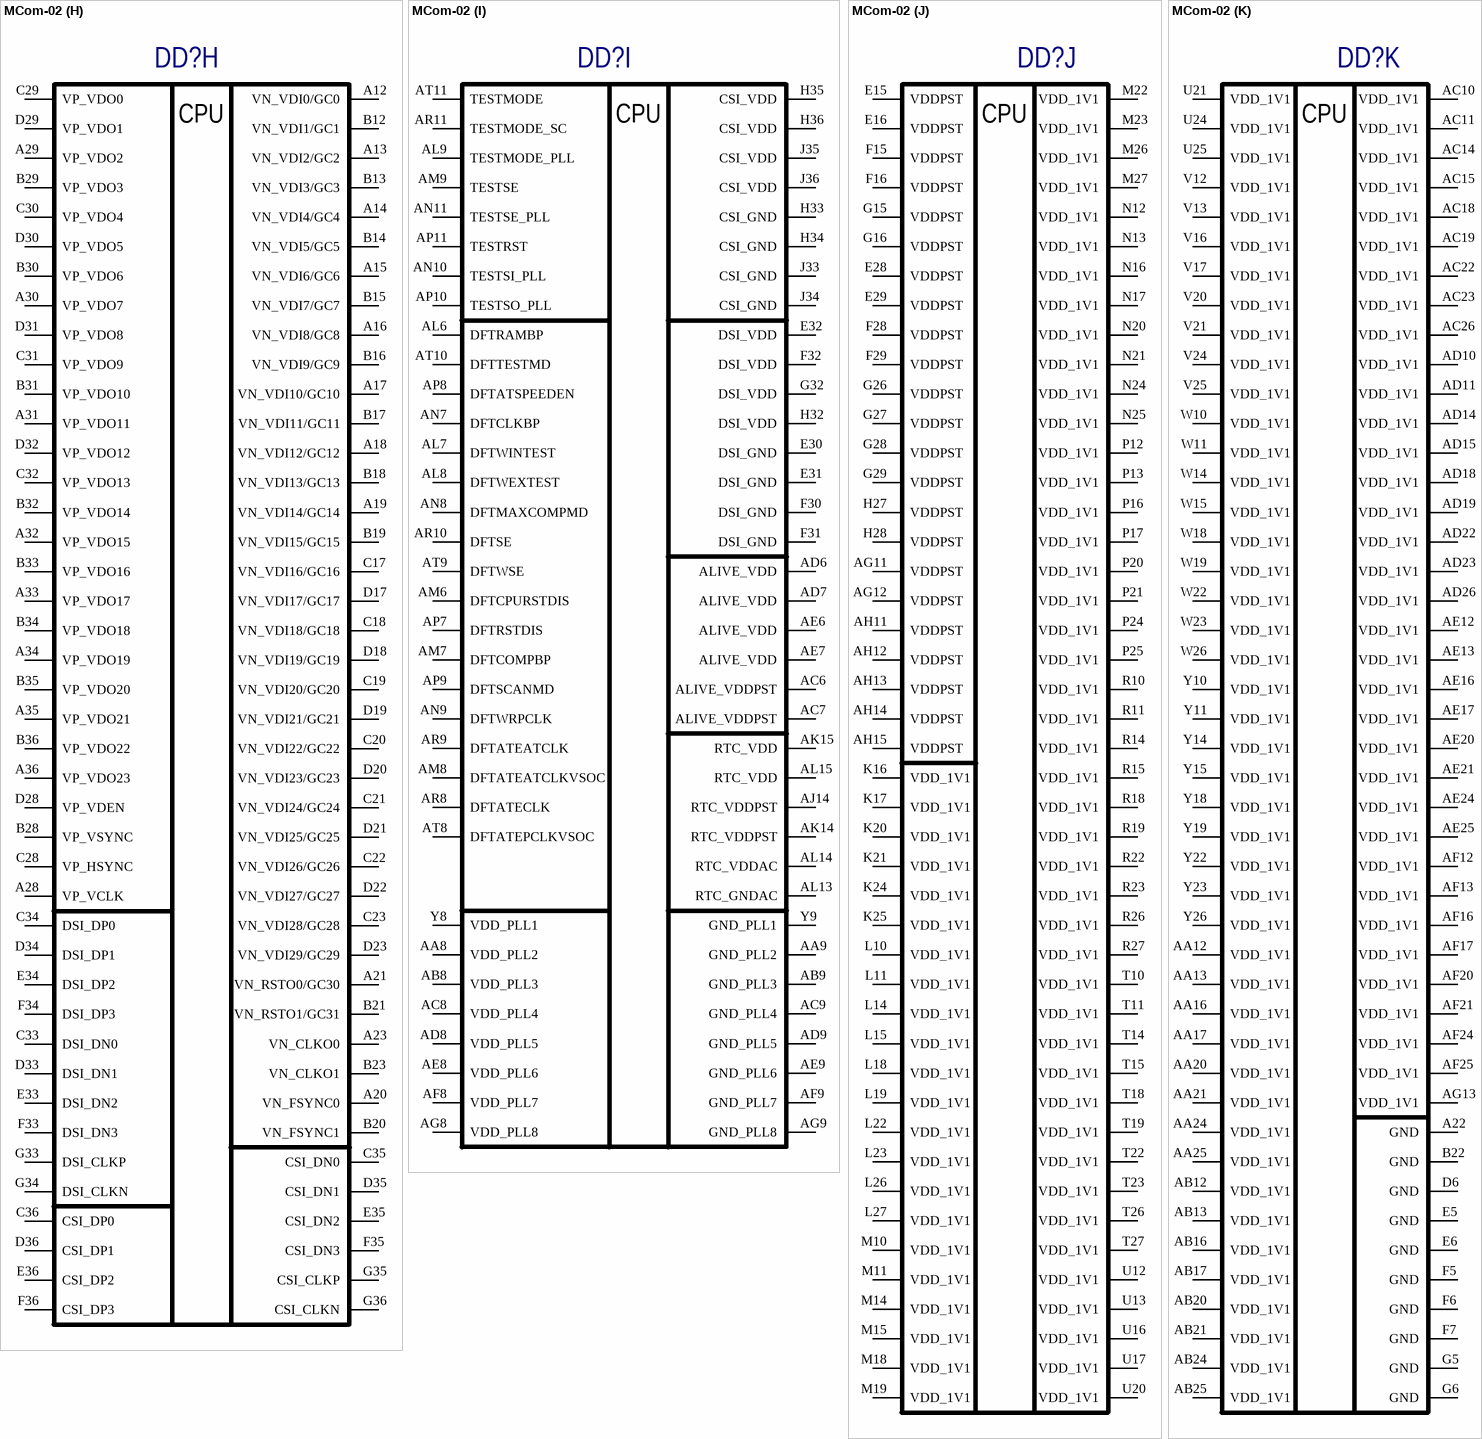
[diagram p10: symbol MCom-02]

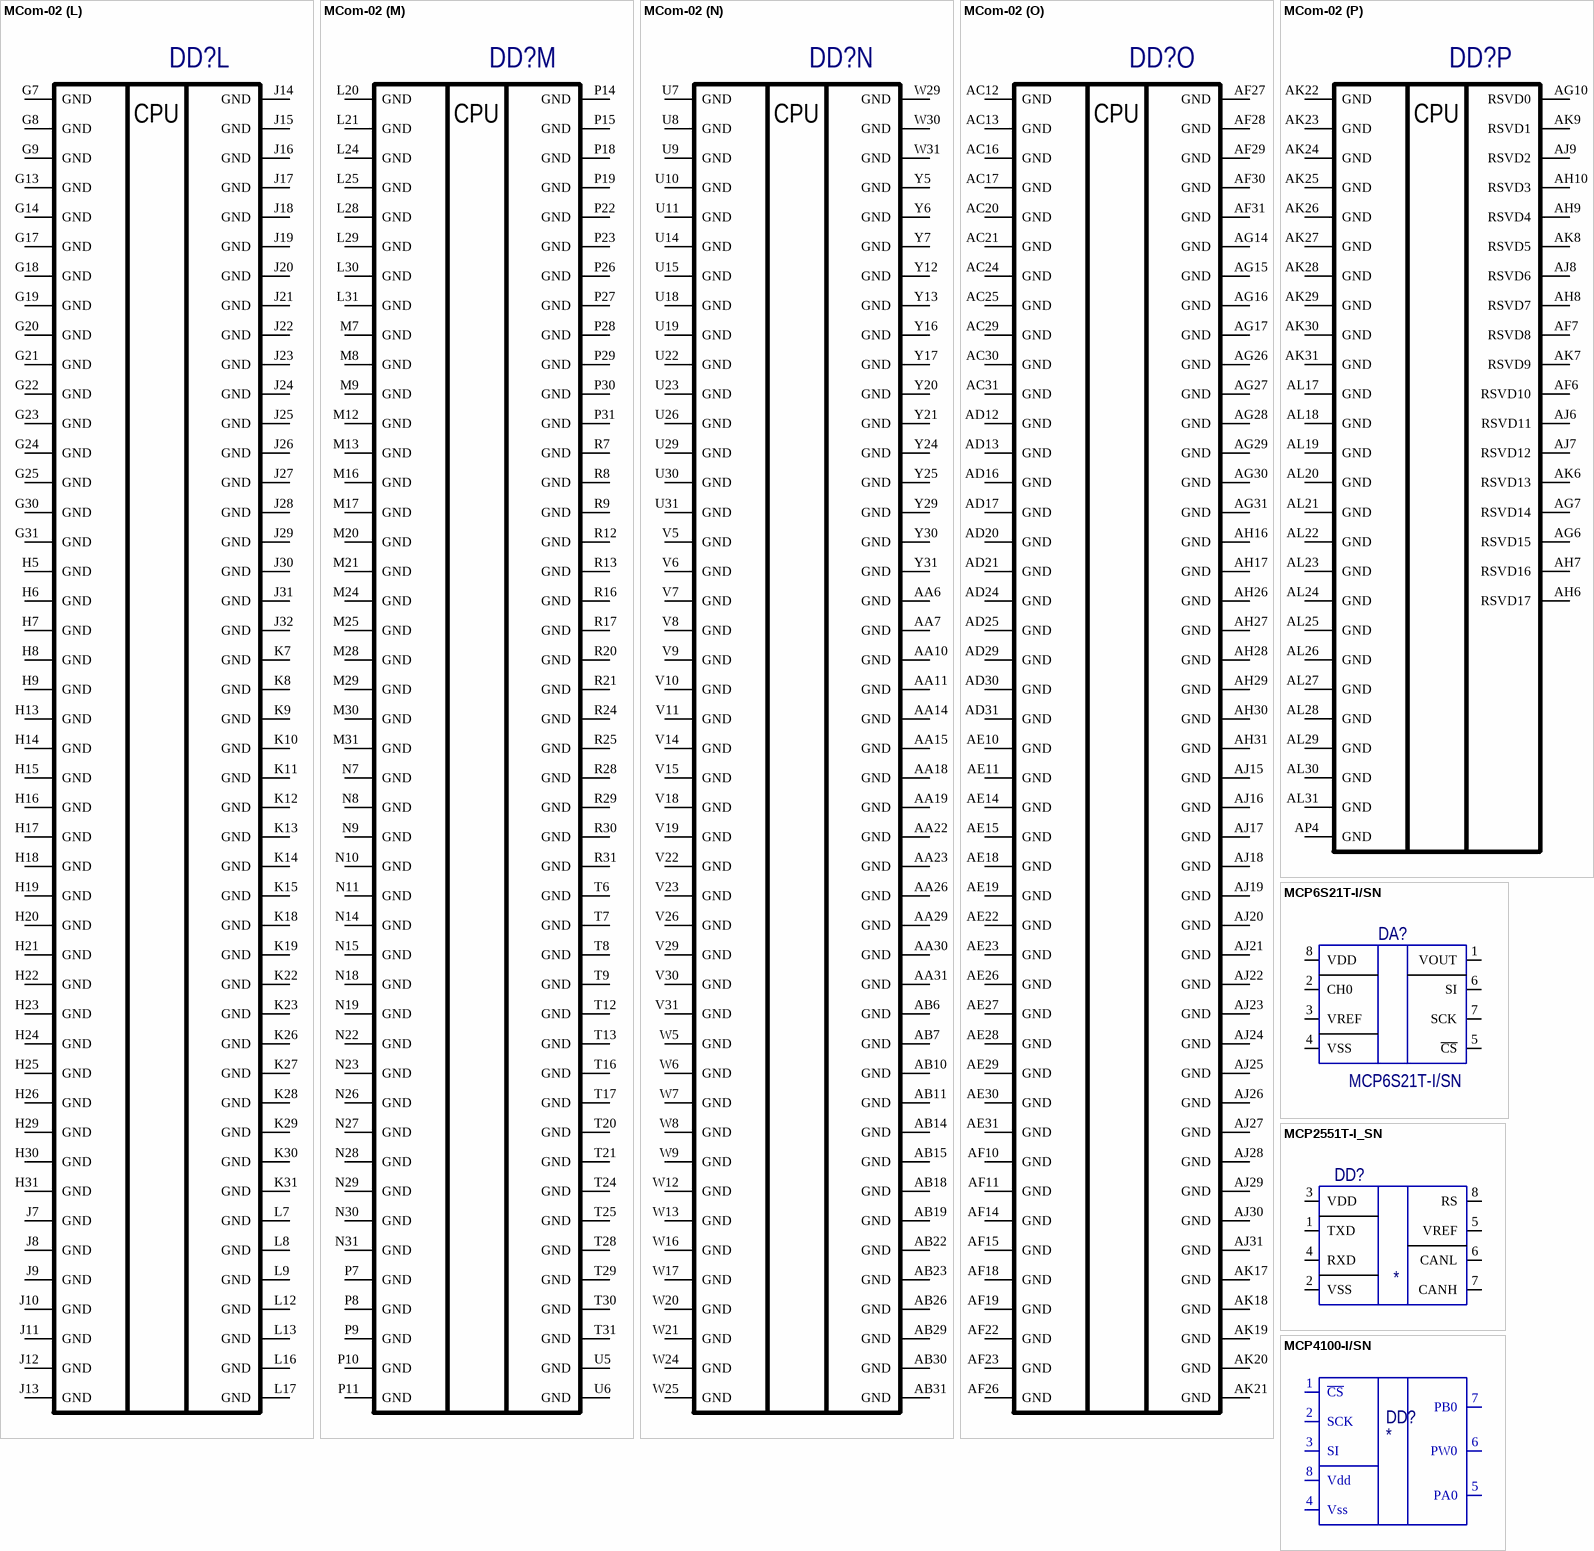
[diagram p11: symbols MCom-02 to MCP4100-I/SN]